# Altium schematic symbol library USRP2_Clone.SchLib: 70 symbols (part 1 of 2)
Pins are listed as number, name and electrical type; pins without a type are passive.

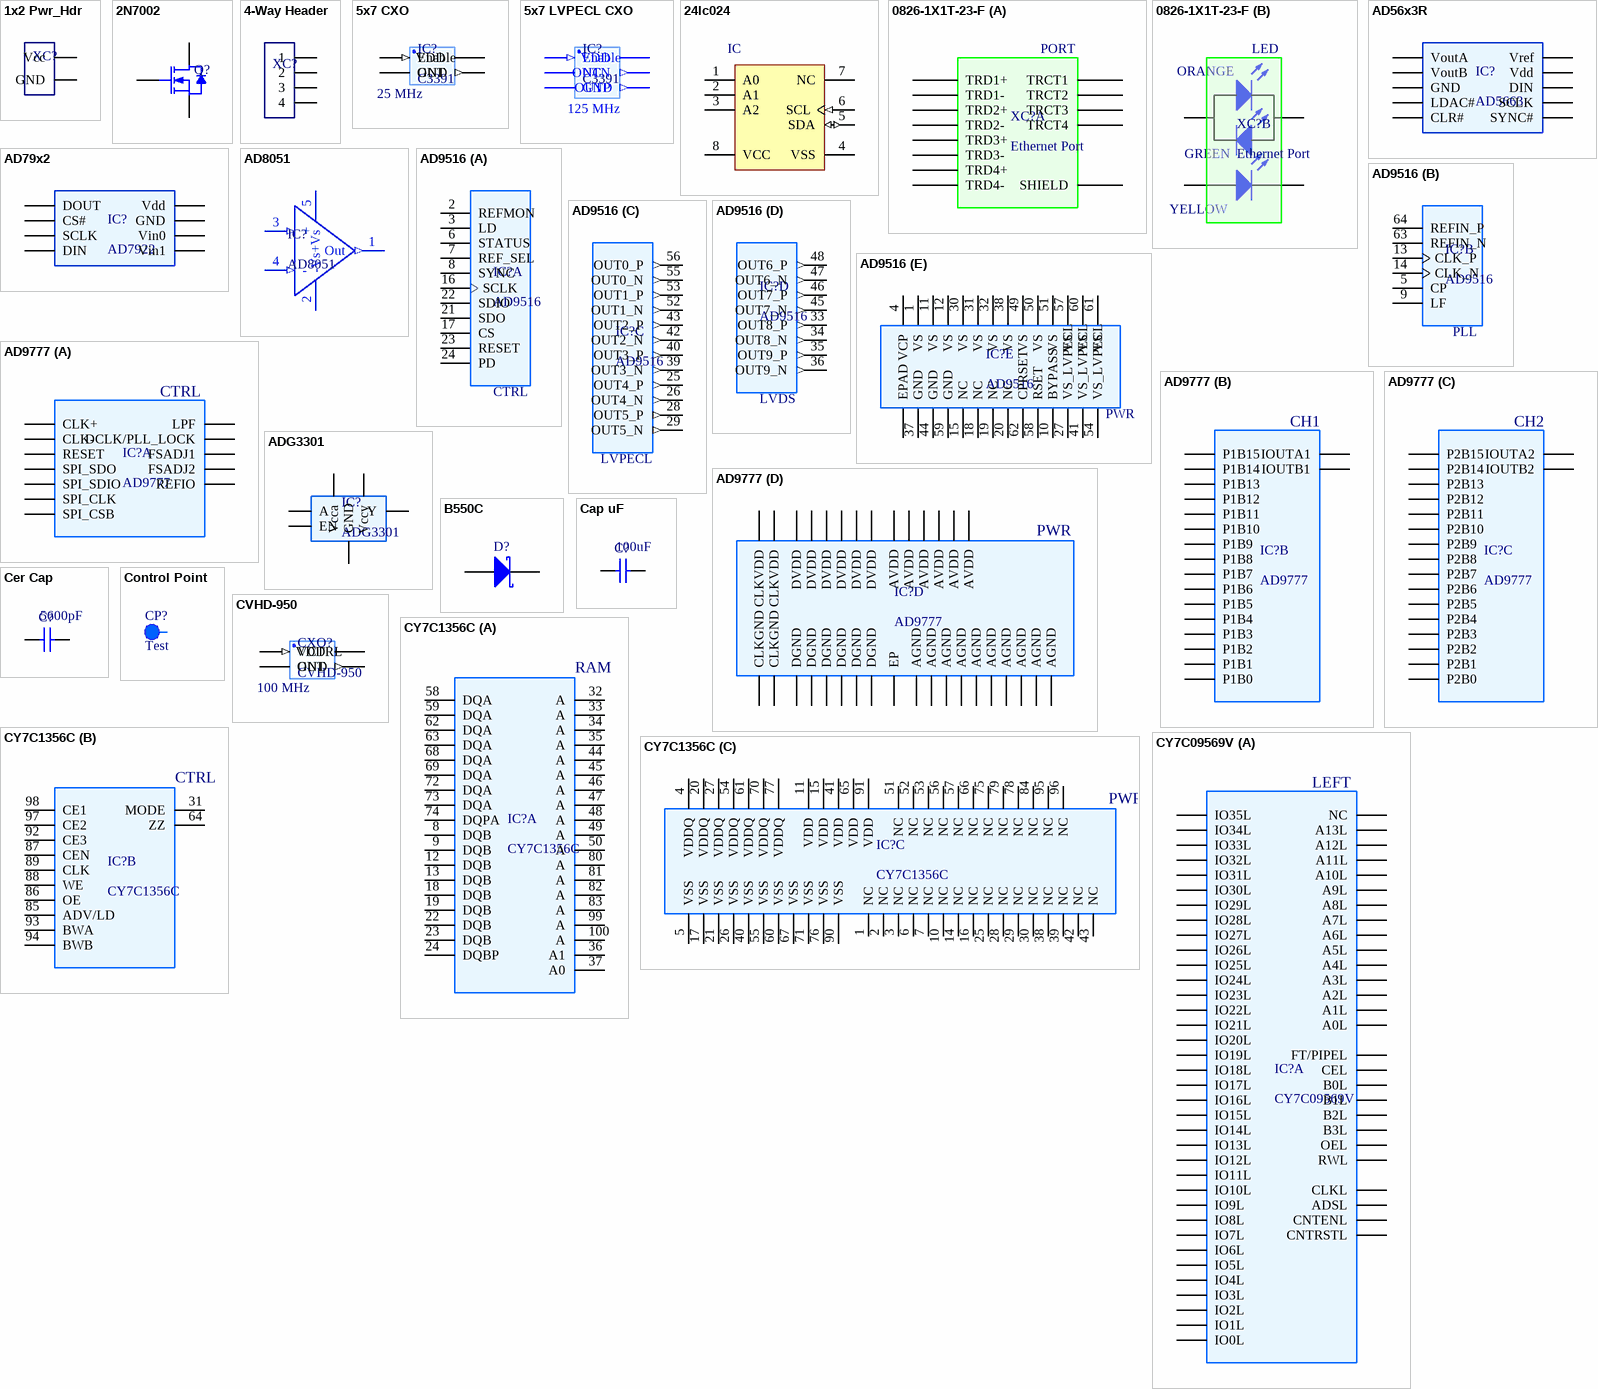
[diagram p0: symbols 1x2 Pwr_Hdr to CY7C09569V]

## 1x2 Pwr_Hdr
designator XC?
Power Connector Mini-Fit; Name: Mini-Fit Power Connector; Current: 5A; Voltage: 12V; Type: 1x2; Package: Through Hole
footprint 1x2 PWR_HDR
footprint 2x2 PWR_HDR
pins: 1 GND, 2 Vcc

## 2N7002
designator Q?  (value not drawn)
N-Channel MOSFET 2N7002; Current: 300mA; Voltage: 60V; Channel Resistance: 5Ohm; Power Dissipation: 0.83W; Name: 2N7002; Type: N-Channel MOSFET; Package: SOT-23
footprint SOT-23
pins: 1 G, 2 S, 3 D

## 4-Way Header
designator XC?  (value not drawn)
4-Way Angle PCB Header; Pitch: 2.54mm; Name: Header; Type: Right Angle; Package: Through Hole
footprint Right Angle Male Header (4-Way 2.54mm Right Angle Male Header)
pins: 1, 2, 3, 4

## 5x7 CXO
designator IC?, comment C3391  Frequency: 25 MHz
Crystal Oscillator; Manufacturer: Crystek; Name: C3391-25.000; Voltage: 3.3V ±0.3V; Output Current: ±24mA Max; Input Current: 15mA Typical; Stability: ± 25ppm; Package: 5×7 mm SMD; Temperature Range: 0°C to +70°C; Type: 3.3V, HCMOS
footprint CTS_CB3
pins: 1 Enable (in), 2 GND, 3 OUT (out), 4 VDD

## 5x7 LVPECL CXO
designator IC?, comment C3391  Frequency: 125 MHz
Crystal Oscillator; Manufacturer: Crystek; Name: CCPD - 033 - 25 - 125.000; Voltage: 3.3V ±0.3V; Output: Differential LVPECL; Input Current: 15mA Typical; Stability: ± 25ppm; Package: 5×7 mm SMD; Temperature Range: 0°C to +70°C; Type: 3.3V, LVPECL
footprint 5x7 CXO LVPECL (6-pin 5x7 CXO LVPECL)
pins: 1 Enable (in), 2 NC, 3 GND (power), 4 OUTP (out), 5 OUTN (out), 6 VDD (power)

## 24lc024
designator IC, comment I2C EEPROM  (value not drawn)
Manufacturer: Microchip; Name: 24lc024; Voltage: 2.5-5.5V; Max Clock: 400 kHz; Capacity: 2 Kbit; Type: I2C EEPROM; Package: SOIC-8
footprint SOIC_SN8
pins: 1 A0, 2 A1, 3 A2, 4 VSS (power), 5 SDA (io), 6 SCL (in), 7 NC, 8 VCC (power)

## 0826-1X1T-23-F
designator XC?, comment Ethernet Port
Gigabit Single Port; Name: 0826-1X1T-23-F; Type: Gigabit Ethernet Single Port with LEDs
footprint 0826-1X1T-23-F (Gigabit Ethernet Single Port MagJack® with LEDs)
part A pins: 0 SHIELD, 1 TRCT3, 2 TRD3-, 3 TRD3+, 4 TRD2+, 5 TRD2-, 6 TRCT2, 7 TRCT4, 8 TRD4+, 9 TRD4-, 10 TRD1-, 11 TRD1+, 12 TRCT1
part B pins: 13 LED1, 14, 15, 16 LED2
part A text: PORT
part B text: LED; ORANGE; GREEN; YELLOW

## AD56x3R
designator IC?, comment AD5663
Dual 12-/14-/16-Bit nanoDAC; Manufacturer: Analog Device; Name: AD5663RBRMZ-5; settling time: 4.5 μs maximum; Voltage: 2.7 V to 5.5 V; High speed serial interface: SPI®/QSPI™/MICROWIRE™/DSP compatible; Type: Dual 12-/14-/16-Bit nanoDAC with 5 ppm/°C On-Chip Reference; Package: MSOP-10
footprint MSOP-10 (MSOP, 10-Leads)
pins: 1 VoutA, 2 VoutB, 3 GND, 4 LDAC#, 5 CLR#, 6 SYNC#, 7 SCLK, 8 DIN, 9 Vdd, 10 Vref

## AD79x2
designator IC?, comment AD7922
1 MSPS, 10-/12-Bit ADC; Manufacturer: Analog Device; Name: AD7922ARM; Fast throughput rate: 1MHz; Voltage: 2.35 V to 5.25 V; High speed serial interface: SPI®/QSPI™/MICROWIRE™/DSP compatible; Type: 2-Channel, 2.35 V to 5.25 V,1 MSPS, 10-/12-Bit ADC; Package: MSOP-8
footprint MSOP-8 (MSOP, 8-Leads)
pins: 1 DOUT, 2 CS#, 3 SCLK, 4 DIN, 5 Vin1, 6 Vin0, 7 GND, 8 Vdd

## AD8051
designator IC?
OpAmp; Name: AD8051ARTZ-REEL7; Voltage: 3 to 12 V; Type: High speed Rail-to-Rail amplifiers; Temperature Range: –40 to +85 °C
footprint SOT-23-5
pins: 1 Out (out), 2 -Vs (power), 3 + (in), 4 - (in), 5 +Vs (power)

## AD9516
designator IC?
14-Output Clock Generator; Name: AD9516-4; Voltage: 2.5 V to 3.3 V; Input Frequency: 0 to 2.4 GHz; Output Frequency, Maximum: 2950 MHz; Input Sensitivity: 150 mV p-p; Type: 14-Output Clock Generator; Package: LFSCSP-64; Temperature Range: −40°C to +85°C
footprint LFCSP-64
part A pins: 2 REFMON, 3 LD, 6 STATUS, 7 REF_SEL, 8 SYNC, 16 SCLK, 17 CS, 21 SDO, 22 SDIO, 23 RESET, 24 PD
part B pins: 5 CP, 9 LF, 13 CLK_P, 14 CLK_N, 63 REFIN_N, 64 REFIN_P
part C pins: 25 OUT4_P (out), 26 OUT4_N (out), 28 OUT5_P (out), 29 OUT5_N (out), 39 OUT3_N (out), 40 OUT3_P (out), 42 OUT2_N (out), 43 OUT2_P (out), 52 OUT1_N (out), 53 OUT1_P (out), 55 OUT0_N (out), 56 OUT0_P (out)
part D pins: 33 OUT8_P (out), 34 OUT8_N (out), 35 OUT9_P (out), 36 OUT9_N (out), 45 OUT7_N (out), 46 OUT7_P (out), 47 OUT6_N (out), 48 OUT6_P (out)
part E pins: 0 EPAD (power), 1 VS (power), 4 VCP (power), 10 BYPASS, 11 VS (power), 12 VS (power), 15 NC, 18 NC, 19 NC, 20 NC, 27 VS_LVPECL (power), 30 VS (power), 31 VS (power), 32 VS (power), 37 GND (power), 38 VS (power), 41 VS_LVPECL (power), 44 GND (power), 49 VS (power), 50 VS (power), 51 VS (power), 54 VS_LVPECL (power), 57 VS (power), 58 RSET, 59 GND (power), 60 VS (power), 61 VS (power), 62 CPRSET
part A text: CTRL
part B text: PLL
part C text: LVPECL
part D text: LVDS
part E text: PWR

## AD9777
designator IC?
16-Bit, 160 MSPS  D/A Converter; Name: AD9777BSV; Power Dissipation: typical 1.2 W @ 3.3 V; Voltage: Single 3.3 V; Resolution: 16 bit; Sampling Frequency: 160 MHz; Type: 16-Bit, 160 MSPS 2x/4x/8x Interpolating Dual TxDAC+® D/A Converter; Temperature Range: −40°C to +85°C; Package: 80-pin TQFP
footprint TQFP-80-EP (TQFP, 80-Leads)
part A pins: 2 LPF, 5 CLK+, 6 CLK-, 8 DCLK/PLL_LOCK, 53 SPI_SDO, 54 SPI_SDIO, 55 SPI_CLK, 56 SPI_CSB, 57 RESET, 58 REFIO, 59 FSADJ2, 60 FSADJ1
part B pins: 11 P1B15, 12 P1B14, 13 P1B13, 14 P1B12, 15 P1B11, 16 P1B10, 19 P1B9, 20 P1B8, 21 P1B7, 22 P1B6, 23 P1B5, 24 P1B4, 27 P1B3, 28 P1B2, 29 P1B1, 30 P1B0, 72 IOUTB1, 73 IOUTA1
part C pins: 31 P2B15, 32 P2B14, 33 P2B13, 34 P2B12, 37 P2B11, 38 P2B10, 39 P2B9, 40 P2B8, 41 P2B7, 42 P2B6, 45 P2B5, 46 P2B4, 47 P2B3, 48 P2B2, 49 P2B1, 50 P2B0, 68 IOUTB2, 69 IOUTA2
part D pins: 0 EP, 1 CLKVDD, 3 CLKVDD, 4 CLKGND, 7 CLKGND, 9 DGND, 10 DVDD, 17 DGND, 18 DVDD, 25 DGND, 26 DVDD, 35 DGND, 36 DVDD, 43 DVDD, 44 DGND, 51 DVDD, 52 DGND, 61 AVDD, 62 AGND, 63 AVDD, 64 AGND, 65 AVDD, 66 AGND, 67 AGND, 70 AGND, 71 AGND, 74 AGND, 75 AGND, 76 AVDD, 77 AGND, 78 AVDD, 79 AGND, 80 AVDD
part A text: CTRL
part B text: CH1
part C text: CH2
part D text: PWR

## ADG3301
designator IC?
Bidirectional Logic Level Translator; Voltage: 1.15 V to 5.5 V; Name: ADG3301; Package: SOT-23-6
footprint SOT-23-6 (SOT23, 6-Leads)
pins: 1 Vcca, 2 A, 3 GND, 4 EN, 5 Y, 6 Vccy

## B550C
designator D?  (value not drawn)
Schottky Diode; Package: SMC; Name: B550C
footprint Diode_SMC
pins: 1 K, 2 A

## Cap uF
designator C?, comment value 100uF  (hidden comment: Cap)
Cer Cap Large; Manufacturer: Murata; Material: x5r; Tolerance: 20%; Voltage: 6.3V; Type: Ceramic; Package: C1210; PackageDescription: SMD Chip Capacitor
footprint C1210 (Chip Capacitor, Body 3.2x2.5mm, IPC High Density)
footprint C2220 (Chip Capacitor)
pins: 1, 2

## Cer Cap
designator C?, comment value 5600pF  (hidden comment: Cap)
Cer Cap Small; Manufacturer: Murata; Material: x7r; Voltage: 50V; Tolerance: 10%; Type: Ceramic; PackageReference: SMD Chip Capacitor; Package: 0402
footprint C0805 (Chip Capacitor, Body 2.0x1.3mm, IPC High Density)
footprint С0402 (Chip Capacitor, Body 1.0x0.5mm, IPC High Density)
footprint C0603 (Chip Capacitor, Body 1.6x0.8mm, IPC High Density)
footprint C1206
pins: 1, 2

## Control Point
designator CP?, comment Test
Control Point; Name: Control Point
footprint Control Point
pins: 1

## CVHD-950
designator CXO?  Frequency: 100 MHz
Crystal Oscillator; Name: CVHD-950-100.000; Voltage: 3.3V ±0.3V; Output: Symmetry; Output Current: ±24mA Max; Input Current: 15mA Typical; Package: CVHD-950; Temperature Range: 0°C to +70°C
footprint CVHD-950
pins: 1 VCTRL (in), 2 GND, 3 OUT (out), 4 VDD

## CY7C1356C
designator IC?
Pipelined SRAM with NoBL; Name: CY7C1356C-250AXC; Voltage: 3.3 V; Type: 9-Mbit (512 K × 18); Package: 100-pin TQFP (14 × 20 × 1.4 mm)
footprint TQFP-100 (100-pin TQFP (14x20x1.4 mm))
part A pins: 8 DQB, 9 DQB, 12 DQB, 13 DQB, 18 DQB, 19 DQB, 22 DQB, 23 DQB, 24 DQBP, 32 A, 33 A, 34 A, 35 A, 36 A1, 37 A0, 44 A, 45 A, 46 A, 47 A, 48 A, 49 A, 50 A, 58 DQA, 59 DQA, 62 DQA, 63 DQA, 68 DQA, 69 DQA, 72 DQA, 73 DQA, 74 DQPA, 80 A, 81 A, 82 A, 83 A, 99 A, 100 A
part B pins: 31 MODE, 64 ZZ, 85 ADV/LD, 86 OE, 87 CEN, 88 WE, 89 CLK, 92 CE3, 93 BWA, 94 BWB, 97 CE2, 98 CE1
part C pins: 1 NC, 2 NC, 3 NC, 4 VDDQ, 5 VSS, 6 NC, 7 NC, 10 NC, 11 VDD, 14 NC, 15 VDD, 16 NC, 17 VSS, 20 VDDQ, 21 VSS, 25 NC, 26 VSS, 27 VDDQ, 28 NC, 29 NC, 30 NC, 38 NC, 39 NC, 40 VSS, 41 VDD, 42 NC, 43 NC, 51 NC, 52 NC, 53 NC, 54 VDDQ, 55 VSS, 56 NC, 57 NC, 60 VSS, 61 VDDQ, 65 VDD, 66 NC, 67 VSS, 70 VDDQ, 71 VSS, 75 NC, 76 VSS, 77 VDDQ, 78 NC, 79 NC, 84 NC, 90 VSS, 91 VDD, 95 NC, 96 NC
part A text: RAM
part B text: CTRL
part C text: PWR

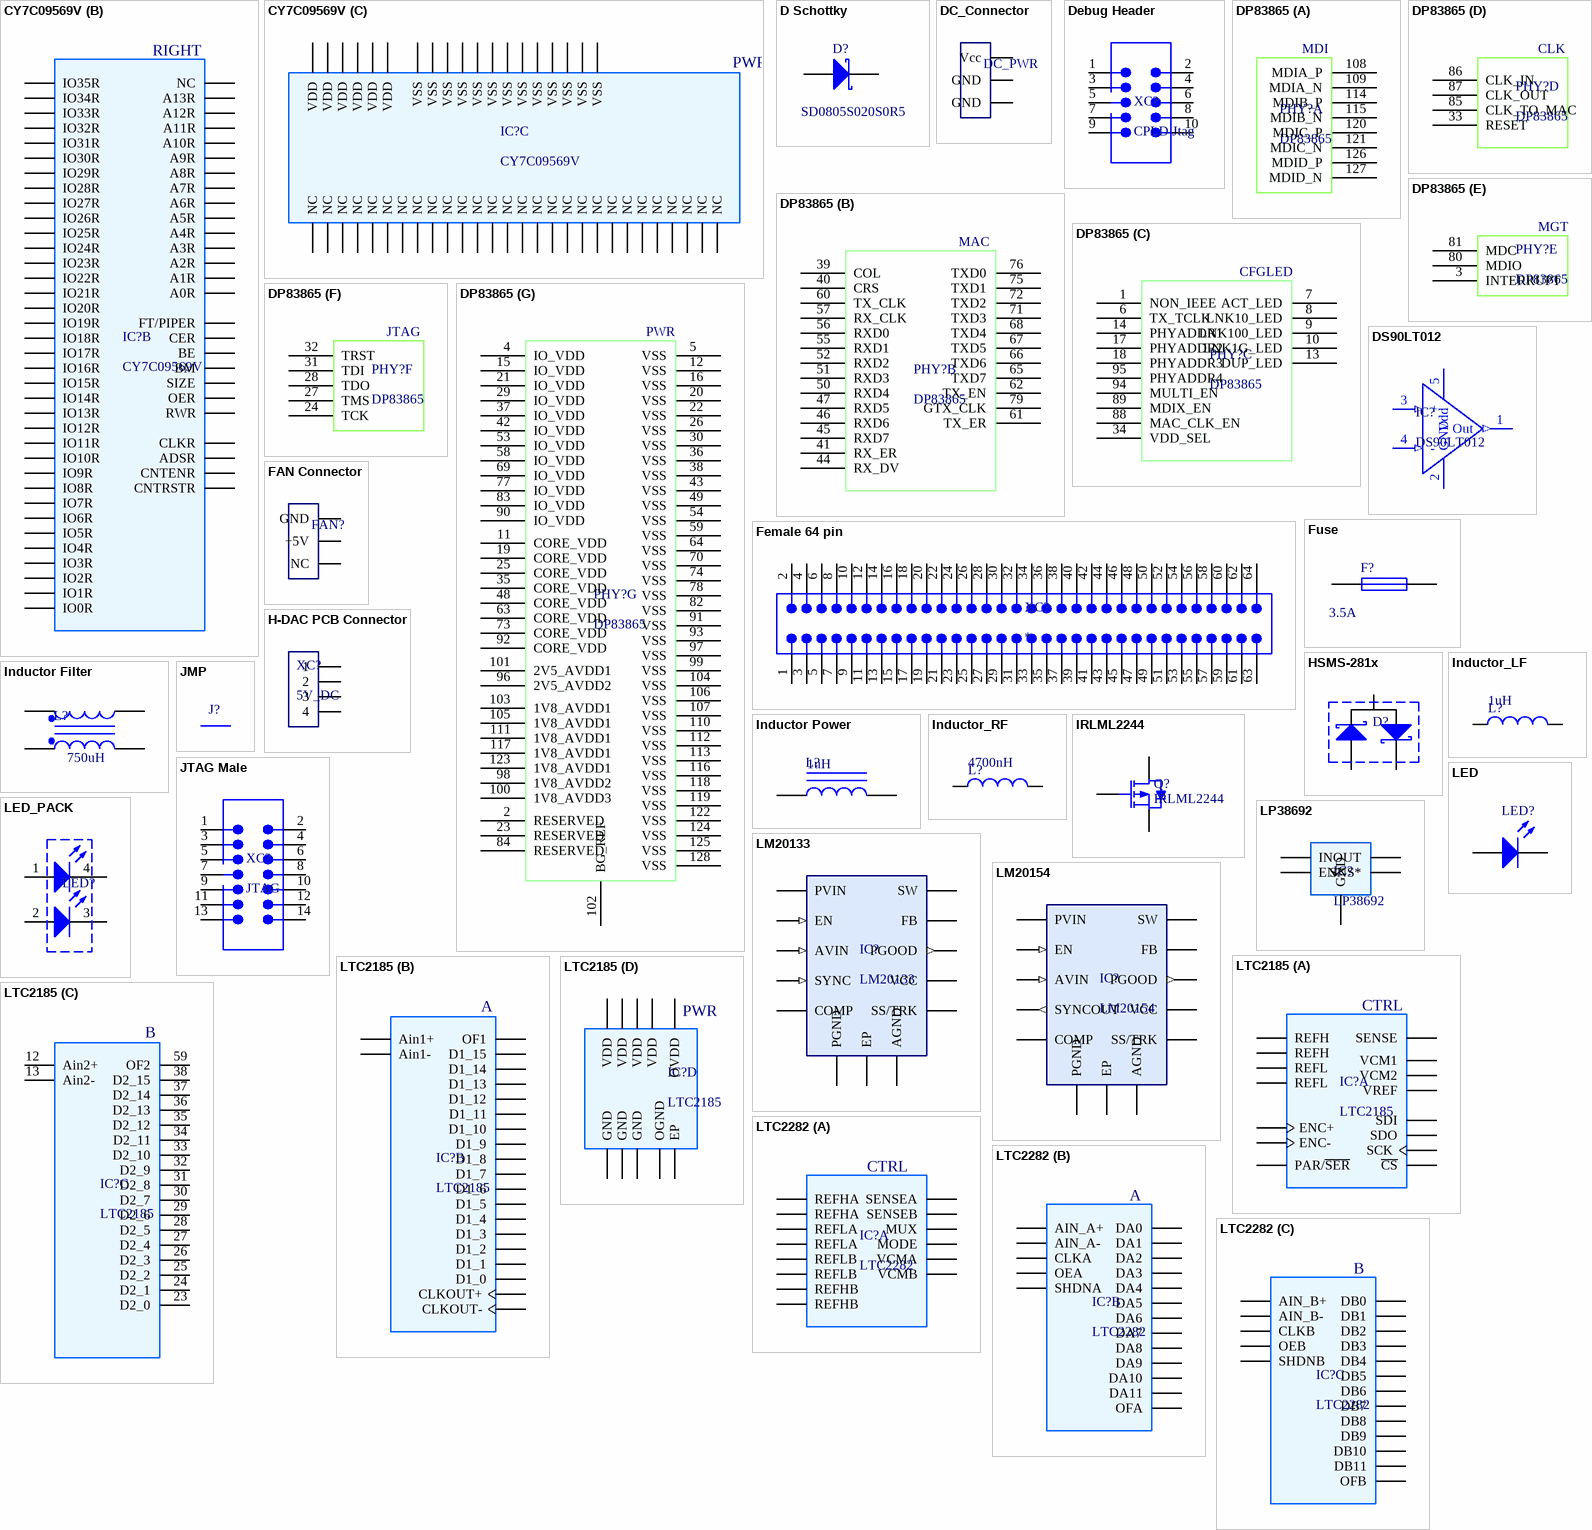
[diagram p1: symbols CY7C09569V to LTC2282]

## CY7C09569V
designator IC?
Synchronous Dual-Port Static RAM; Name: CY7C09579V-100BBC; Voltage: 3.3 V; Type: 16 K × 36 organization dual-port static RAM; Package: 172-ball BGA
footprint BGA172 (BGA, 172-Leads, Body 15,00x15,00mmx0,53mm, Pitch 1,00mm)
part A pins: A1 IO32L, A2 IO30L, A5 IO13L, A7 IO11L, B1 A0L, B2 IO33L, B3 IO29L, B4 IO17L, B5 IO14L, B6 IO12L, B7 IO9L, C2 A1L, C3 IO31L, C4 IO27L, C6 IO15L, C7 IO10L, D1 A2L, D2 A3L, D3 IO35L, D4 IO34L, D5 IO28L, D6 IO16L, E1 A4L, E2 A5L, E4 B0L, F2 A6L, F3 A7L, F4 B1L, G1 OEL, G2 B2L, G3 B3L, G4 CEL, H2 RWL, H3 A8L, H4 CLKL, J1 A9L, J2 A10L, J4 ADSL, K1 A11L, K2 A12L, K4 CNTRSTL, L1 FT/PIPEL, L2 A13L, L3 CNTENL, L4 IO26L, L5 IO25L, L6 IO19L, M2 NC, M3 IO22L, M4 IO18L, M6 IO7L, M7 IO2L, N1 IO24L, N2 IO20L, N3 IO8L, N4 IO6L, N5 IO5L, N6 IO3L, N7 IO0L, P1 IO23L, P2 IO21L, P5 IO4L, P7 IO1L
part B pins: A8 IO11R, A10 IO13R, A13 IO30R, A14 IO32R, B8 IO9R, B9 IO12R, B10 IO14R, B11 IO17R, B12 IO29R, B13 IO33R, B14 A0R, C8 IO10R, C9 IO15R, C11 IO27R, C12 IO31R, C13 A1R, D9 IO16R, D10 IO28R, D11 IO34R, D12 IO35R, D13 A3R, D14 A2R, E11 BM, E13 A5R, E14 A4R, F11 SIZE, F12 A7R, F13 A6R, G11 CER, G13 BE, G14 OER, H11 CLKR, H12 A8R, H13 RWR, J11 ADSR, J13 A10R, J14 A9R, K11 CNTRSTR, K13 A12R, K14 A11R, L9 IO19R, L10 IO25R, L11 IO26R, L12 CNTENR, L13 A13R, L14 FT/PIPER, M8 IO2R, M9 IO7R, M11 IO18R, M12 IO22R, M13 NC, N8 IO0R, N9 IO3R, N10 IO5R, N11 IO6R, N12 IO8R, N13 IO20R, N14 IO24R, P8 IO1R, P10 IO4R, P13 IO21R, P14 IO23R
part C pins: A3 NC, A4 VSS, A6 VDD, A9 VDD, A11 VSS, A12 NC, C1 NC, C5 NC, C10 NC, C14 NC, D7 VSS, D8 VSS, E3 NC, E5 NC, E6 NC, E9 NC, E10 NC, E12 NC, F1 VDD, F5 NC, F10 NC, F14 VDD, G12 VSS, H1 VSS, H14 VSS, J3 VSS, J5 NC, J10 NC, J12 VSS, K3 NC, K5 NC, K6 NC, K9 NC, K10 NC, K12 NC, L7 VSS, L8 VSS, M1 NC, M5 NC, M10 NC, M14 NC, P3 NC, P4 VSS, P6 VDD, P9 VDD, P11 VSS, P12 NC
part A text: LEFT
part B text: RIGHT
part C text: PWR

## D Schottky
designator D?  Name: SD0805S020S0R5  (hidden comment: D Schottky)
Schottky Diode SMD; Manufacturer: AVX Corporation; Voltage: 20V; Current: 0.5A; Forward Voltage: 440mV@500mA; Type: Schottky Barrier Rectifier Diode; Package: SMD
footprint SD0805 (Schottky Barrier Rectifier Diode)
pins: 1 K, 2 A

## DC_Connector
designator DC_PWR  (value not drawn)
DC Power Connector 6mm; Current: 5A; Voltage: 12V; Name: DC Power Connector; Type: 2.5mm*5.7mm; Package: through hole
footprint DC_CONNECTOR
pins: 1 Vcc, 2 GND, 3 GND

## Debug Header
designator XC?, comment CPLD Jtag
Name: JTAG Header 5x2; Type: Two Row Male Header 100mil Step
footprint Debug Header (10-pin 2.54mm pitch PCB Header)
pins: 1 GND, 2 VREF, 3 GND, 4 TMS, 5 GND, 6 TCK, 7 GND, 8 TDO, 9 GND, 10 TDI

## DP83865
designator PHY?
10/100/1000 Ethernet Physical Layer; Name: DP83865DVH; Type: 10/100/1000 Ethernet Physical Layer; Package: LQFP-128
footprint LQFP-128
part A pins: 108 MDIA_P, 109 MDIA_N, 114 MDIB_P, 115 MDIB_N, 120 MDIC_P, 121 MDIC_N, 126 MDID_P, 127 MDID_N
part B pins: 39 COL, 40 CRS, 41 RX_ER, 44 RX_DV, 45 RXD7, 46 RXD6, 47 RXD5, 50 RXD4, 51 RXD3, 52 RXD2, 55 RXD1, 56 RXD0, 57 RX_CLK, 60 TX_CLK, 61 TX_ER, 62 TX_EN, 65 TXD7, 66 TXD6, 67 TXD5, 68 TXD4, 71 TXD3, 72 TXD2, 75 TXD1, 76 TXD0, 79 GTX_CLK
part C pins: 1 NON_IEEE, 6 TX_TCLK, 7 ACT_LED, 8 LNK10_LED, 9 LNK100_LED, 10 LNK1G_LED, 13 DUP_LED, 14 PHYADDR1, 17 PHYADDR2, 18 PHYADDR3, 34 VDD_SEL, 88 MAC_CLK_EN, 89 MDIX_EN, 94 MULTI_EN, 95 PHYADDR4
part D pins: 33 RESET, 85 CLK_TO_MAC, 86 CLK_IN, 87 CLK_OUT
part E pins: 3 INTERRUPT, 80 MDIO, 81 MDC
part F pins: 24 TCK, 27 TMS, 28 TDO, 31 TDI, 32 TRST
part G pins: 2 RESERVED, 4 IO_VDD, 5 VSS, 11 CORE_VDD, 12 VSS, 15 IO_VDD, 16 VSS, 19 CORE_VDD, 20 VSS, 21 IO_VDD, 22 VSS, 23 RESERVED, 25 CORE_VDD, 26 VSS, 29 IO_VDD, 30 VSS, 35 CORE_VDD, 36 VSS, 37 IO_VDD, 38 VSS, 42 IO_VDD, 43 VSS, 48 CORE_VDD, 49 VSS, 53 IO_VDD, 54 VSS, 58 IO_VDD, 59 VSS, 63 CORE_VDD, 64 VSS, 69 IO_VDD, 70 VSS, 73 CORE_VDD, 74 VSS, 77 IO_VDD, 78 VSS, 82 VSS, 83 IO_VDD, 84 RESERVED, 90 IO_VDD, 91 VSS, 92 CORE_VDD, 93 VSS, 96 2V5_AVDD2, 97 VSS, 98 1V8_AVDD2, 99 VSS, 100 1V8_AVDD3, 101 2V5_AVDD1, 102 BG_REF, 103 1V8_AVDD1, 104 VSS, 105 1V8_AVDD1, 106 VSS, 107 VSS, 110 VSS, 111 1V8_AVDD1, 112 VSS, 113 VSS, 116 VSS, 117 1V8_AVDD1, 118 VSS, 119 VSS, 122 VSS, 123 1V8_AVDD1, 124 VSS, 125 VSS, 128 VSS
part A text: MDI
part B text: MAC
part C text: CFGLED
part D text: CLK
part E text: MGT
part F text: JTAG
part G text: PWR

## DS90LT012
designator IC?
CMOS Differential Line Receiver; Name: DS90LT012ATMF; Voltage: 2.7V to 3.6V; Switching Rate: >400 Mbps (200 MHz); Integrated Termination Resistor: 102 Ω; Type: CMOS Differential Line Receiver; Package: R-PDSO-G5; Temperature Range: −40°C  to +85°C
footprint R-PDSO-G5
pins: 1 Out (out), 2 GND (power), 3 + (in), 4 - (in), 5 Vdd (power)

## FAN Connector
designator FAN?  (value not drawn)
FAN Connector; Current: 5A; Voltage: 12V; Name: FAN Connector; Package: through hole
footprint FAN_HDR
pins: 1 GND, 2 +5V, 3 NC

## Female 64 pin
designator XC?
Mezzanine Pitch Connector; Name: 1.00mm Pitch Mezzanine 714390164; Voltage: 100V; Current: 1.0A; Type: PMC Mezzanine 1.00mm Pitch Connector; Reference: http://www.molex.com/molex/products/datasheet.jsp?part=active/0714390164_PCB_RECEPTACLES.xml#partdetail
footprint 64 pin female Mezzanine
pins: 1, 2, 3, 4, 5, 6, 7, 8, 9, 10, 11, 12, 13, 14, 15, 16, 17, 18, 19, 20, 21, 22, 23, 24, 25, 26, 27, 28, 29, 30, 31, 32, 33, 34, 35, 36, 37, 38, 39, 40, 41, 42, 43, 44, 45, 46, 47, 48, 49, 50, 51, 52, 53, 54, 55, 56, 57, 58, 59, 60, 61, 62, 63, 64

## Fuse
designator F?  Current: 3.5A  (hidden comment: Fuse)
Chip SMD Fuse; Name: Fast Fuse; Type: Fast Chip SMD Fuse; Voltage: 125V; Package: SMD Omni Block
footprint Fuse
pins: 1, 2

## H-DAC PCB Connector
designator XC?, comment 5V_DC
Manufacturer: Molex; Part Number: 0311010040; Name: PCB Header; Voltage: 500V; Current: 7.0 A; Mate With: H-DAC 64™ 31068 Series; Mate With P/N: 0310681010; Type: Vertical; Package: Through Hole; Series: H-DAC 64™ 31101; P/N: 0311010040
footprint H-DAC 64
pins: 1, 2, 3, 4

## HSMS-281x
designator D?  (value not drawn)
RF Schottky Barrier Diodes; Name: HSMS-281C; Package: SOT-323
footprint SOT-323
pins: 1 A, 2 K, 3 K

## Inductor Filter
designator L?  value 750uH  (hidden comment: Inductor Filter)
Magnetic-Core Inductor; Manufacturer: Coilcraft; Tolerance: ±30%; Name: P3222AL; Current: 5A; Package: Chip Inductor; Temperature Range: -40ºC to 125ºC
footprint Coilcraft_P3222AL
pins: 1, 2, 3, 4

## Inductor Power
designator L?  value 1uH  (hidden comment: Inductor Power)
Magnetic-Core Inductor; Manufacturer: Coilcraft; Tolerance: ±30%; Name: MSS1038; Current: 5A; Package: Chip Inductor; Temperature Range: -40ºC to 125ºC
footprint Coilcraft MSS1048
footprint Coilcraft MSS1038
footprint Murata 4600/4500 Series Inductor
footprint MS612PNB
footprint XAL6060-223
pins: 1, 2

## Inductor_LF
designator L?  value 1uH  (hidden comment: Inductor_LF)
Inductor_Power_Lines; Manufacturer: Murata; Name: LQH32PN1R0NNC; Tolerance: 5%; Current: 2500mA; Frequency: 100MHz; Package: 1210; PackageDescription: Chip Inductor; Temperature Range: -25…85; Series: LQH
footprint L1206_Murata
footprint L1210_Murata (Chip Capacitor, Body 3.2x2.5mm, IPC High Density)
footprint L1210_Murata LQH (Power Lines Inductor)
footprint L0805_Murata_LQG (Chip Capacitor, Body 2.0x1.3mm, IPC High Density)
pins: 1, 2

## Inductor_RF
designator L?  value 4700nH  (hidden comment: Inductor_RF)
Manufacturer: Murata; Name: LQG21F; Tolerance: 5%; Current: 250mA; Frequency: 350MHz; Package: 0805; PackageDescription: Chip Inductor; Temperature Range: -25…85; Series: LQG
footprint L0402 (Chip Capacitor, Body 1.0x0.5mm, IPC High Density)
footprint L0603 (Chip Capacitor, Body 1.6x0.8mm, IPC High Density)
footprint L0805 (Chip Capacitor, Body 2.0x1.3mm, IPC High Density)
footprint L1812
footprint L0805_Murata_LQG (Chip Capacitor, Body 2.0x1.3mm, IPC High Density)
pins: 1, 2

## IRLML2244
designator Q?
P-Channel MOSFET; Current: 4.3A; Channel Resistance: 54 mΩ; Power Dissipation: 1.3W; Voltage: -20V; Name: IRLML2244; Package: SOT-23; Type: P-Channel Mosfet
footprint SOT-23
pins: 1 G, 2 S, 3 D

## JMP
designator J?  (value not drawn)  (net tie, no BOM)
PGND & AGND Connect; Rule: UNIONINDEX{}0[]RULEKIND{}Width[]NETSCOPE{}AnyNet[]LAYERKIND{}SameLayer[]NAME{}Schematic Width Constraint[]MAXLIMIT{}59.0551mil[]MINLIMIT{}10mil[]PREFEREDWIDTH{}10mil[]MIDLAYER1_MAXWIDTH{}19.685mil[]MIDLAYER2_MAXWIDTH{}19.685mil[]MIDLAYER3_MAXWIDTH{}19.685mil[]MIDLAYER4_MAXWIDTH{}19.685mil[]MIDLAYER5_MAXWIDTH{}19.685mil[]MIDLAYER6_MAXWIDTH{}19.685mil[]MIDLAYER7_MAXWIDTH{}19.685mil[]MIDLAYER8_MAXWIDTH{}19.685mil[]MIDLAYER9_MAXWIDTH{}19.685mil[]MIDLAYER10_MAXWIDTH{}19.685mil[]MIDLAYER11_MAXWIDTH{}19.685mil[]MIDLAYER12_MAXWIDTH{}19.685mil[]MIDLAYER13_MAXWIDTH{}19.685mil[]MIDLAYER14_MAXWIDTH{}19.685mil[]MIDLAYER15_MAXWIDTH{}19.685mil[]MIDLAYER16_MAXWIDTH{}19.685mil[]MIDLAYER17_MAXWIDTH{}19.685mil[]MIDLAYER18_MAXWIDTH{}19.685mil[]MIDLAYER19_MAXWIDTH{}19.685mil[]MIDLAYER20_MAXWIDTH{}19.685mil[]MIDLAYER21_MAXWIDTH{}19.685mil[]MIDLAYER22_MAXWIDTH{}19.685mil[]MIDLAYER23_MAXWIDTH{}19.685mil[]MIDLAYER24_MAXWIDTH{}19.685mil[]MIDLAYER25_MAXWIDTH{}19.685mil[]MIDLAYER26_MAXWIDTH{}19.685mil[]MIDLAYER27_MAXWIDTH{}19.685mil[]MIDLAYER28_MAXWIDTH{}19.685mil[]MIDLAYER29_MAXWIDTH{}19.685mil[]MIDLAYER30_MAXWIDTH{}19.685mil[]MINIMP{}50.000000[]MAXIMP{}50.000000[]FAVIMP{}50.000000[]UNIT{}Metric[]PcbType{}ProtelPcb
footprint JUMPER
pins: 1, 2

## JTAG Male
designator XC?, comment JTAG
Male Header JTAG; Manufacturer: CNC Tech; Name: BOX HEADER, 0.050 14 POS; P/N: 3220-14-0100-00; Type: Two Row Male Header .050'' Step
footprint JTAG Mail
footprint JTAG Mail 1.27mm
pins: 1 GND, 2 VREF, 3 GND, 4 TMS, 5 GND, 6 TCK, 7 GND, 8 TDO, 9 GND, 10 TDI, 11 GND, 12 NC, 13 GND, 14 SRST

## LED
designator LED?  (value not drawn)
Typical RED, GREEN, YELLOW, AMBER GaAs LED; Manufacturer: Kingbright; Color: Blue; P/N: APHHS1005QBC/D; Package: 0402; Name: LED
footprint LED_0805_Green
footprint LED_0402_Blue
pins: 1 K, 2 A

## LED_PACK
designator LED?, comment Green  (value not drawn)
LED Pack For Front Panel; Manufacturer: Kingbright; P/N: WP934EB/2GD; Type: 2-level PCB-mount LED-indicator; Current: 25mA; Color: Green; Package: Throu-Hole
footprint LED_PACK
pins: 1 A, 2 A, 3 K, 4 K

## LM20133
designator IC?
Synchronous Buck Regulator; Input Voltage: 2.95V to 5.5V; Frequency: 500 kHz to 1.5 MHz; Current: 3A; Temperature Range: −40°C to + 125°C; Type: Synchronous Buck Regulator; Name: LM20133; Package: HTSSOP
footprint LM201xx
pins: 1 SS/TRK, 2 FB, 3 PGOOD (out), 4 COMP, 6 PVIN, 8 SW, 10 PGND, 12 EN (in), 13 VCC, 14 AVIN (in), 15 AGND, 16 SYNC (in), 17 EP

## LM20154
designator IC?
Synchrous Buck Regulator; Current: 4A; Frequency: 1MHz; Input Voltage: 2.95V to 5.5V; Type: Synchrous Buck Regulator; Temperature Range: −40°C to + 125°C; Name: LM20154; Package: HTSSOP
footprint LM201xx
pins: 1 SS/TRK, 2 FB, 3 PGOOD (out), 4 COMP, 6 PVIN, 8 SW, 10 PGND, 12 EN (in), 13 VCC, 14 AVIN (in), 15 AGND, 16 SYNCOUT (out), 17 EP

## LP38692
designator IC?
Linear Regulator; Name: LP28692MP-3.3; Input Voltage: 2.7 V to 10 V; Output Accuracy: 2.5%; Dropout Voltage: 450 mV at 1 A; Package: SOT-223-5; Type: Linear Regulator; Temperature Range: –40°C to 125°C
footprint SOT-223-5
pins: 1 EN, 3 OUT, 4 IN, 5 GND, 6 SNS*

## LTC2185
designator IC?
Dual 16-Bit, 125Msps  Low Power 3V ADC; Name: LTC2185CUP#PBF-ND; Power Dissipation: 370mW; Voltage: Single 1.8V Supply; Resolution: 16 Bits; Sampling Frequency: 125 MHz; Type: Dual 16-Bit, 105Msps  Low Power 3V ADC; Temperature Range: 0°C to 70°C; Package: 64-Pin (9mm × 9mm) QFN
footprint QFN-64
part A pins: 2 VCM1, 7 REFH, 8 REFL, 9 REFH, 10 REFL, 11 PAR/~{SER}, 15 VCM2, 18 ENC+, 19 ENC-, 20 ~{CS}, 21 SCK, 22 SDI, 61 SDO, 62 VREF, 63 SENSE
part B pins: 4 Ain1+, 5 Ain1-, 39 CLKOUT-, 40 CLKOUT+, 43 D1_0, 44 D1_1, 45 D1_2, 46 D1_3, 47 D1_4, 48 D1_5, 49 D1_6, 50 D1_7, 51 D1_8, 52 D1_9, 53 D1_10, 54 D1_11, 55 D1_12, 56 D1_13, 57 D1_14, 58 D1_15, 60 OF1
part C pins: 12 Ain2+, 13 Ain2-, 23 D2_0, 24 D2_1, 25 D2_2, 26 D2_3, 27 D2_4, 28 D2_5, 29 D2_6, 30 D2_7, 31 D2_8, 32 D2_9, 33 D2_10, 34 D2_11, 35 D2_12, 36 D2_13, 37 D2_14, 38 D2_15, 59 OF2
part D pins: 0 EP (power), 1 VDD (power), 3 GND (power), 6 GND (power), 14 GND (power), 16 VDD (power), 17 VDD (power), 41 OGND (power), 42 OVDD (power), 64 VDD (power)
part A text: CTRL
part B text: A
part C text: B
part D text: PWR

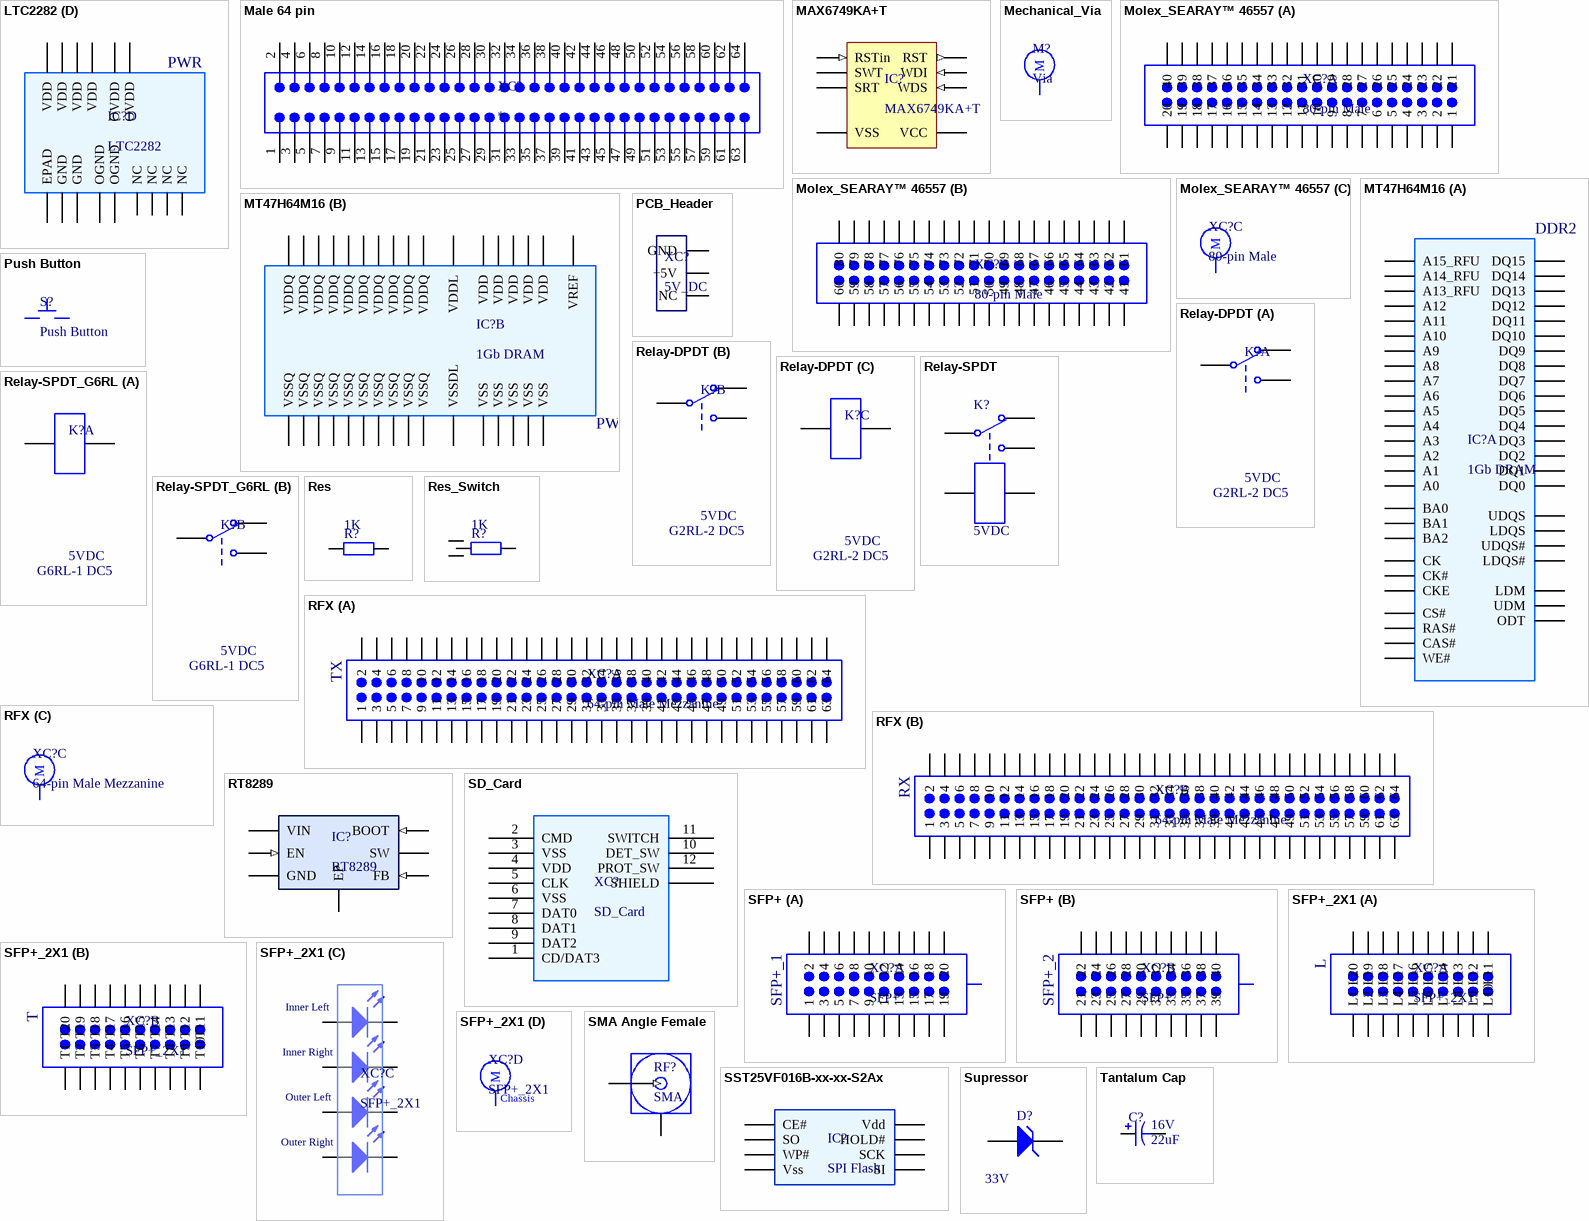
[diagram p2: symbols LTC2282 to Tantalum Cap]

## LTC2282
designator IC?
Dual 12-Bit, 105Msps  Low Power 3V ADC; Name: LTC2282CUP#BPF; Power Dissipation: 1500mW; Voltage: Single 3V Supply (2.85V to 3.4V); Resolution: 12 Bits; Sampling Frequency: 105 MHz; Type: Dual 12-Bit, 105Msps  Low Power 3V ADC; Temperature Range: 0°C to 70°C; Package: 64-Pin (9mm × 9mm) QFN
footprint QFN-64
part A pins: 3 REFHA, 4 REFHA, 5 REFLA, 6 REFLA, 11 REFLB, 12 REFLB, 13 REFHB, 14 REFHB, 19 SENSEB, 20 VCMB, 21 MUX, 60 MODE, 61 VCMA, 62 SENSEA
part B pins: 1 AIN_A+, 2 AIN_A-, 8 CLKA, 43 DA0, 44 DA1, 45 DA2, 46 DA3, 47 DA4, 48 DA5, 51 DA6, 52 DA7, 53 DA8, 54 DA9, 55 DA10, 56 DA11, 57 OFA, 58 OEA, 59 SHDNA
part C pins: 9 CLKB, 15 AIN_B-, 16 AIN_B+, 22 SHDNB, 23 OEB, 26 DB0, 27 DB1, 28 DB2, 29 DB3, 30 DB4, 33 DB5, 34 DB6, 35 DB7, 36 DB8, 37 DB9, 38 DB10, 39 DB11, 40 OFB
part D pins: 0 EPAD, 7 VDD, 10 VDD, 17 GND, 18 VDD, 24 NC, 25 NC, 31 OGND, 32 OVDD, 41 NC, 42 NC, 49 OVDD, 50 OGND, 63 VDD, 64 GND
part A text: CTRL
part B text: A
part C text: B
part D text: PWR

## Male 64 pin
designator XC?
64 Position Mezzanine connectors for board stacking, 1 mm Centerline high density packaging; Name: 1.00mm Pitch Mezzanine 714362164; Voltage: 100V; Current: 1.0A; Type: PMC Mezzanine 1.00mm Pitch Connector; Reference: http://www.molex.com/molex/products/datasheet.jsp?part=active/0714360164_PCB_HEADERS.xml&channel=Products&L#partdetail
footprint 64 pin male mezanine
footprint 64-pin Mezzanine Mail with Holes
footprint DB_RX
pins: 1, 2, 3, 4, 5, 6, 7, 8, 9, 10, 11, 12, 13, 14, 15, 16, 17, 18, 19, 20, 21, 22, 23, 24, 25, 26, 27, 28, 29, 30, 31, 32, 33, 34, 35, 36, 37, 38, 39, 40, 41, 42, 43, 44, 45, 46, 47, 48, 49, 50, 51, 52, 53, 54, 55, 56, 57, 58, 59, 60, 61, 62, 63, 64

## MAX6749KA+T
designator IC?
uC Reset Circuits; Manufacturer: Maxim; Voltage: 1.0-5.5V; RESET IN Threshold: 1.235V; Name: MAX6749KA+T; Package: 8 SOT23
footprint SOT-23-8 (TSOP, 8-Leads)
pins: 1 RSTin (in), 2 SWT, 3 SRT, 4 VSS (power), 5 WDS (in), 6 WDI (in), 7 RST (out), 8 VCC (power)

## Mechanical_Via
designator M?, comment Via
Mechanical Via
footprint Mechanical_Via
pins: 0 M

## Molex_SEARAY™ 46557
designator XC?, comment 80-pin Male
CONN FML 80POS 4ROWS GOLD SMD; Manufacturer: Molex; Name: High Density Array, Female; Pitch: 0.050" (1.27mm); Number of Positions: 80; P/N: 46557-2545; Mates With: SEARAY™ 46556 Series; IsBGA: TRUE; Series: SEARAY™ 46557; Number of Rows: 4; Mounting Type: Surface Mount
footprint Molex_465572545 (CONN FML 80POS 4ROWS GOLD)
part A pins: 1, 2, 3, 4, 5, 6, 7, 8, 9, 10, 11, 12, 13, 14, 15, 16, 17, 18, 19, 20, 21, 22, 23, 24, 25, 26, 27, 28, 29, 30, 31, 32, 33, 34, 35, 36, 37, 38, 39, 40
part B pins: 41, 42, 43, 44, 45, 46, 47, 48, 49, 50, 51, 52, 53, 54, 55, 56, 57, 58, 59, 60, 61, 62, 63, 64, 65, 66, 67, 68, 69, 70, 71, 72, 73, 74, 75, 76, 77, 78, 79, 80
part C pins: 0 M

## MT47H64M16
designator IC?, comment 1Gb DRAM
DDR2 1Gb DRAM; Manufacturer: Micron Technology Inc.; Name: MT47H64M16NF-25E:M; Configuration: 64 Meg x 16 (8 Meg x 16 x 8 banks); Voltage: V  DD  = 1.8V ±0.1V, V  DDQ  = 1.8V ±0.1V; Package: 84-ball FBGA (8mm x 12.5mm)
footprint BGA84 (DDR2)
part A pins: A8 UDQS#, B1 DQ14, B3 UDM, B7 UDQS, B9 DQ15, C2 DQ9, C8 DQ8, D1 DQ12, D3 DQ11, D7 DQ10, D9 DQ13, E8 LDQS#, F1 DQ6, F3 LDM, F7 LDQS, F9 DQ7, G2 DQ1, G8 DQ0, H1 DQ4, H3 DQ3, H7 DQ2, H9 DQ5, J8 CK, K2 CKE, K3 WE#, K7 RAS#, K8 CK#, K9 ODT, L1 BA2, L2 BA0, L3 BA1, L7 CAS#, L8 CS#, M2 A10, M3 A1, M7 A2, M8 A0, N2 A3, N3 A5, N7 A6, N8 A4, P2 A7, P3 A9, P7 A11, P8 A8, R2 A12, R3 A14_RFU, R7 A15_RFU, R8 A13_RFU
part B pins: A1 VDD, A3 VSS, A7 VSSQ, A9 VDDQ, B2 VSSQ, B8 VSSQ, C1 VDDQ, C3 VDDQ, C7 VDDQ, C9 VDDQ, D2 VSSQ, D8 VSSQ, E1 VDD, E3 VSS, E7 VSSQ, E9 VDDQ, F2 VSSQ, F8 VSSQ, G1 VDDQ, G3 VDDQ, G7 VDDQ, G9 VDDQ, H2 VSSQ, H8 VSSQ, J1 VDDL, J2 VREF, J3 VSS, J7 VSSDL, J9 VDD, M9 VDD, N1 VSS, P9 VSS, R1 VDD
part A text: DDR2
part B text: PWR

## PCB_Header
designator XC?, comment 5V_DC
Manufacturer: Molex; Part Number: 353620350; Name: PCB Header; Voltage: 125V; Current: 2.0 A; Type: Vertical; Package: Through Hole
footprint Molex_353620350
pins: 1 GND, 2 +5V, 3 NC

## Push Button
designator S?
Manufacturer: Omron; Name: B3FS-1000; Operating  force: 2.55 N; Plunger  color: Black; Voltage: 24V; Current: 50mA; Type: Tactile Switch (SMT); Package: 6x6 SMT; Series: B3FS-1000
footprint B3FS-1000 (Push Button 6x6 mm)
pins: 1, 2

## Relay-DPDT
designator K?, comment 5VDC  Name: G2RL-2 DC5
Power Relay; Manufacturer: Omron; Switch Current: 8A max; Type: DPDT; Voltage: 5VDC
footprint G2RL-2 (Compact Dual-pole Relay)
part A pins: 2, 3, 4
part B pins: 5, 6, 7
part C pins: 1, 8

## Relay-SPDT
designator K?, comment 5VDC
Single-Pole Dual-Throw Relay; Manufacturer: Omron; Switch Current: 5A max; Name: G5SB-14 DC5; Type: Compact Single-pole Relay; Voltage: 5VDC
footprint G5SB (Compact Single-pole Relay)
pins: 1, 2, 3, 4, 5

## Relay-SPDT_G6RL
designator K?, comment 5VDC  Name: G6RL-1 DC5
Single-Pole Dual-Throw Relay; Manufacturer: Omron; Switch Current: 8A max; Type: Compact Single-pole Relay; Voltage: 5VDC
footprint G6RL (Low-profile power relay)
part A pins: 1, 5
part B pins: 2, 3, 4

## Res
designator R?  value 1K  (hidden comment: Res)
Resistor; Name: Chip SMD Resistor; Tolerance: 5%; Power: 0.062 Wt; Package: SMD; Temperature Range: -55…155
footprint R0402
footprint R0805
footprint R0603 (Chip Capacitor, Body 1.6x0.8mm, IPC High Density)
pins: 1, 2

## Res_Switch
designator R?  value 1K  (hidden comment: Res_Switch)
Resistor; Name: Chip SMD Resistor; Tolerance: 5%; Power: 0.062 Wt; Package: SMD; Temperature Range: -55…155
footprint R0402_Switch
pins: 1, 2, 3

## RFX
designator XC?, comment 64-pin Male Mezzanine
RFX; Name: 1.00mm Pitch Mezzanine 714362164
footprint RFX
part A pins: 1, 2, 3, 4, 5, 6, 7, 8, 9, 10, 11, 12, 13, 14, 15, 16, 17, 18, 19, 20, 21, 22, 23, 24, 25, 26, 27, 28, 29, 30, 31, 32, 33, 34, 35, 36, 37, 38, 39, 40, 41, 42, 43, 44, 45, 46, 47, 48, 49, 50, 51, 52, 53, 54, 55, 56, 57, 58, 59, 60, 61, 62, 63, 64
part B pins: 65 1, 66 2, 67 3, 68 4, 69 5, 70 6, 71 7, 72 8, 73 9, 74 10, 75 11, 76 12, 77 13, 78 14, 79 15, 80 16, 81 17, 82 18, 83 19, 84 20, 85 21, 86 22, 87 23, 88 24, 89 25, 90 26, 91 27, 92 28, 93 29, 94 30, 95 31, 96 32, 97 33, 98 34, 99 35, 100 36, 101 37, 102 38, 103 39, 104 40, 105 41, 106 42, 107 43, 108 44, 109 45, 110 46, 111 47, 112 48, 113 49, 114 50, 115 51, 116 52, 117 53, 118 54, 119 55, 120 56, 121 57, 122 58, 123 59, 124 60, 125 61, 126 62, 127 63, 128 64
part C pins: 0 M
part A text: TX
part B text: RX

## RT8289
designator IC?
Step-Down Converter; Current: 5A; Voltage: 32V; Frequency: 500 kHz; Name: RT8289; Package: SOP-8
footprint RT8289
pins: 1 BOOT (in), 4 FB (in), 5 EN (in), 6 GND (power), 7 VIN (power), 8 SW (power), 9 EP

## SD_Card
designator XC?
SD Card Holder; Manufacturer: Tyco Electronics; Name: 1775059-1; Type: SD Card Connector, Reverse Type; Package: SMD PCB Mount
footprint SD_Card
pins: 0 SHIELD, 1 CD/DAT3, 2 CMD, 3 VSS, 4 VDD, 5 CLK, 6 VSS, 7 DAT0, 8 DAT1, 9 DAT2, 10 DET_SW, 11 SWITCH, 12 PROT_SW

## SFP+
designator XC?
SFP+ 1 by 2 Connector; Manufacturer: Molex; Name: SFP+ Connector 74441 Series; P/N: 744410010 20-pin SFP+ connector; P/N: 747540220 SFP+ Cage 1 by 2; Type: 40-pin (2x20 pin) SFP+ Connector
footprint SFP+ (SFP+ 10Gbit Connector 1x2)
part A pins: 0 CHASSIS, 1, 2, 3, 4, 5, 6, 7, 8, 9, 10, 11, 12, 13, 14, 15, 16, 17, 18, 19, 20
part B pins: 0 CHASSIS, 21, 22, 23, 24, 25, 26, 27, 28, 29, 30, 31, 32, 33, 34, 35, 36, 37, 38, 39, 40
part A text: SFP+_1
part B text: SFP+_2

## SFP+_2X1
designator XC?
SFP+ 1 by 2 Connector; Manufacturer: Molex; LEDS Manufacturer: Kingbright; Name: SFP+ Connector 76044 Series; P/N: 0760445001; LEDS Green x2 P/N: APHCM2012CGCK-F01; LEDS Orange x2 P/N: APHCM2012SECK-F01; Type: 40-pin (2x20 pin) SFP+ Connector; Mounting Type: Through Hole, Right Angle; Termination: Press-Fit; Features: Board Guide, EMI Shielded, Light Pipe
footprint SFP+ Light Pipe (CONN STACKED SFP+ 2X1 40POS)
part A pins: L1, L2, L3, L4, L5, L6, L7, L8, L9, L10, L11, L12, L13, L14, L15, L16, L17, L18, L19, L20
part B pins: T1, T2, T3, T4, T5, T6, T7, T8, T9, T10, T11, T12, T13, T14, T15, T16, T17, T18, T19, T20
part C pins: INL_1 K, INL_2 A, INR_1 K, INR_2 A, OUTL_1 K, OUTL_2 A, OUTR_1 K, OUTR_2 A
part D pins: 0 M
part A text: L
part B text: T
part C text: Inner Left; Inner Right; Outer Left; Outer Right
part D text: Chassis

## SMA Angle Female
designator RF?, comment SMA
SMA Male Right-Angle PCM Connector; Name: SMA Right Angle PCB Mount RF Connector; Type: SMA
footprint SMA Angle Female
footprint SMA Angle Female With Term
pins: 0 GND (power), 1 RF (in) "Signal Pin"

## SST25VF016B-xx-xx-S2Ax
designator IC?, comment SPI Flash
Name: SSTV25VF016B-50-4C-S2F; Operating Frequency: 50 MHz; Device Density: 16 Mbit; Voltage: 2.7-3.6V; Type: SPI Flash; Package: SOIC; Temperature Range: 0°C to +70°C
footprint SOIC8-W
pins: 1 CE#, 2 SO, 3 WP#, 4 Vss, 5 SI, 6 SCK, 7 HOLD#, 8 Vdd

## Supressor
designator D?  Voltage: 33V  (hidden comment: Supressor)
33V Supressor; Name: SMCJ33A-TR; Power: 1500W; Package: SMC
footprint Diode_SMC
footprint SMF
pins: 1 K, 2 A

## Tantalum Cap
designator C?  value 22uF  Voltage: 16V  (hidden comment: *)
Tantalum Polarity Cap; Manufacturer: Tecap; Name: Tantalum Capacitor; Tolerance: 20%; Type: Tantalum Polarity Cap; Temperature Range: -55…85; Package: Chip Capacitor Type C
footprint capacitor C
footprint Tantalum_C
footprint Tantalum_D
pins: 1, 2

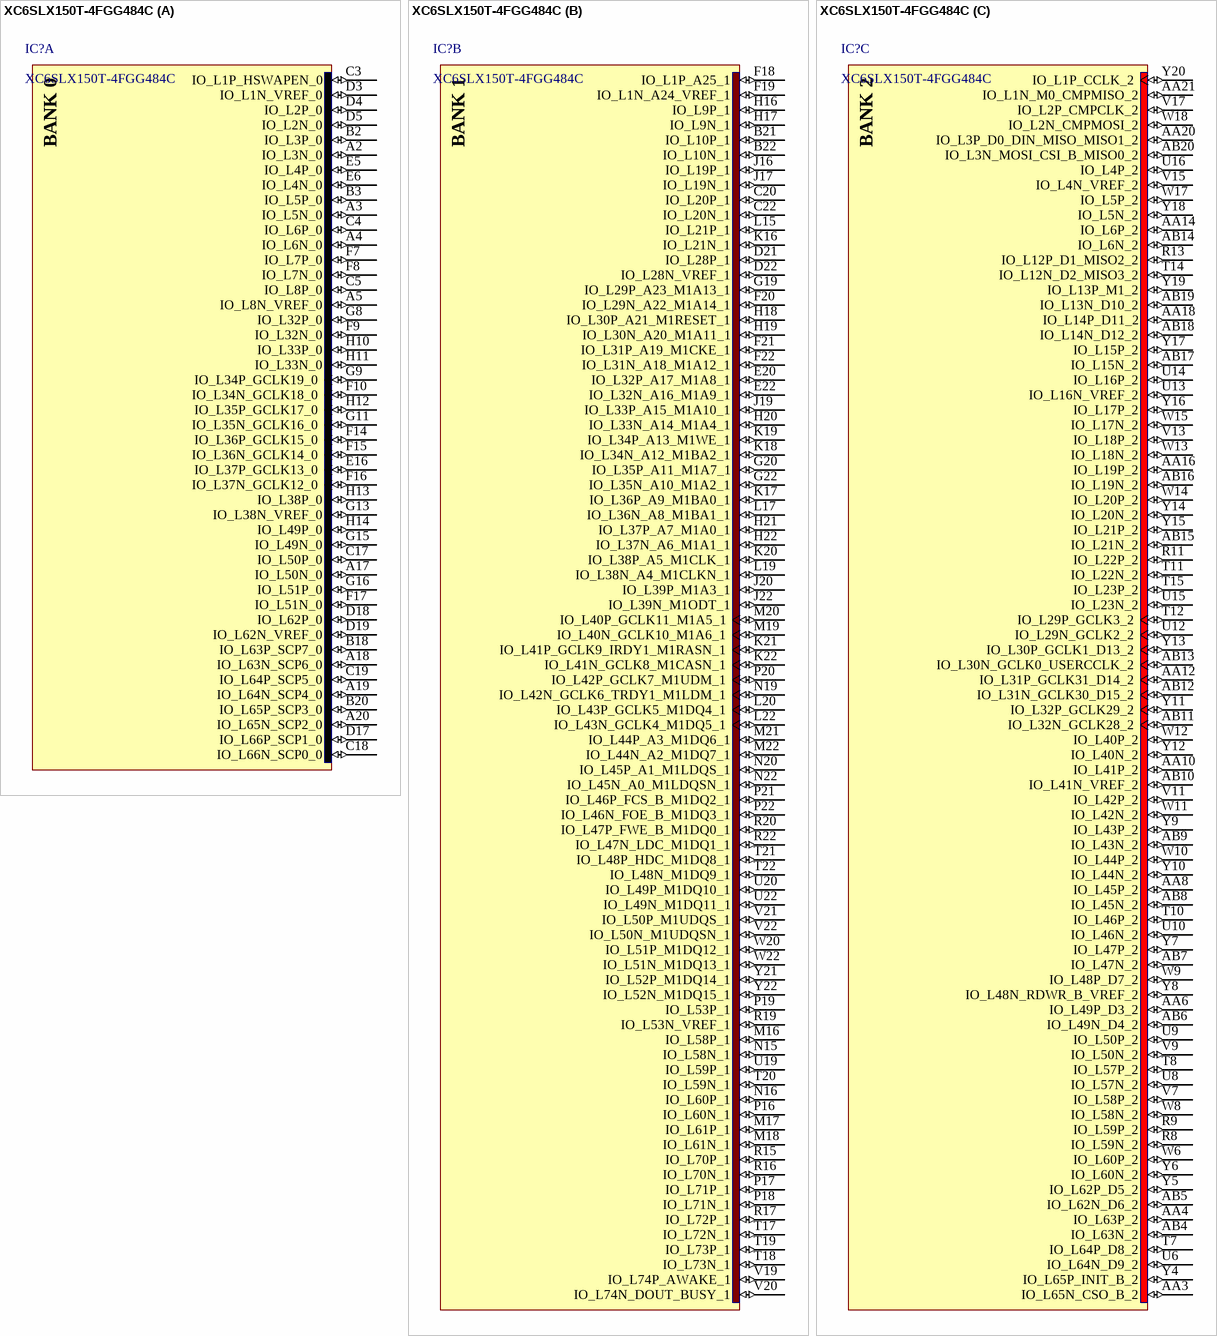
[diagram p3: symbol XC6SLX150T-4FGG484C]

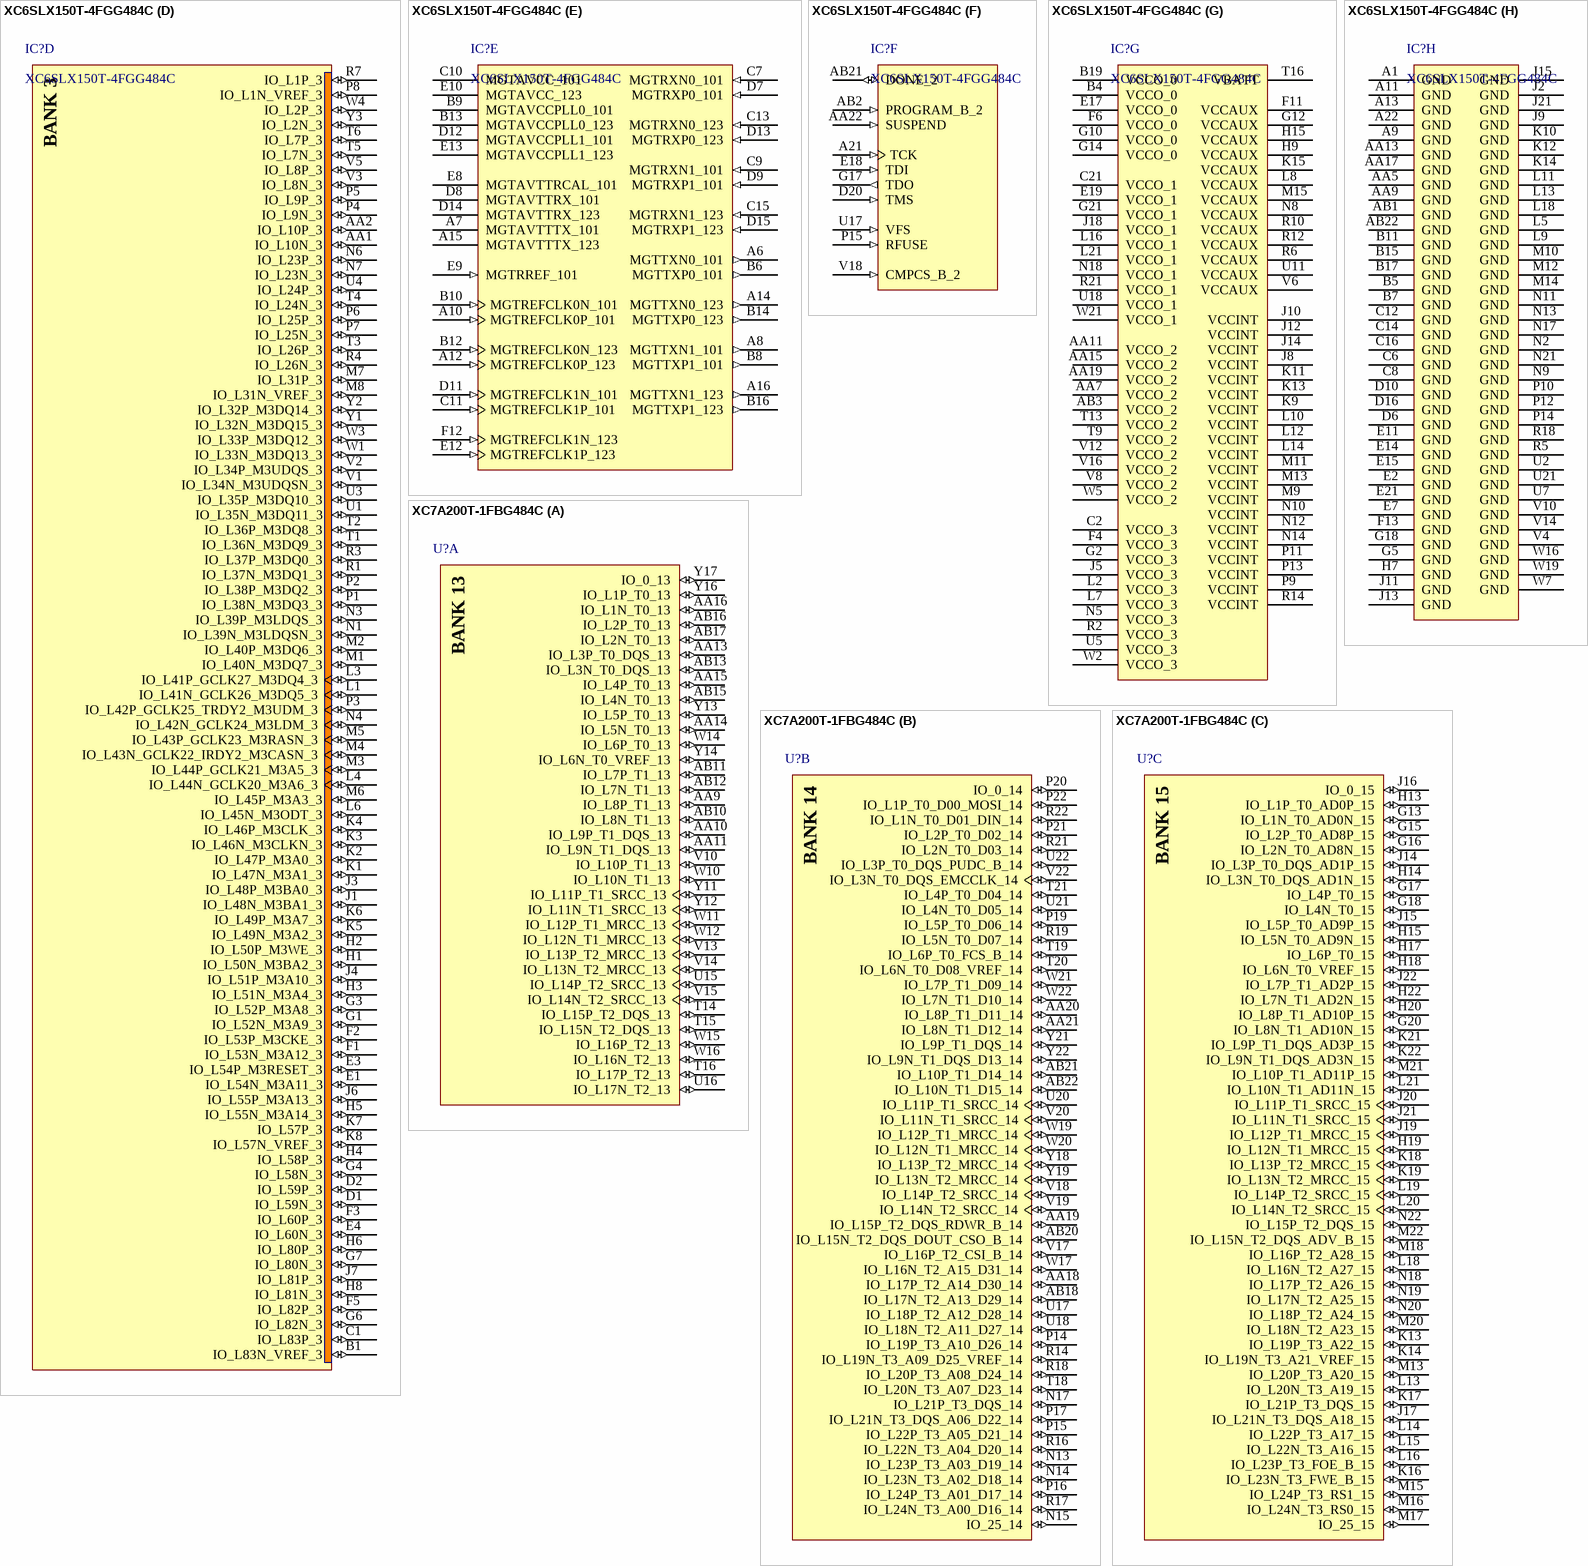
[diagram p4: symbols XC6SLX150T-4FGG484C to XC7A200T-1FBG484C]

## XC6SLX150T-4FGG484C
designator IC?
Spartan-6 LXT 1.2V FPGA, 296 User I/Os, 484-Ball Fine-Pitch BGA (1.0mm Pitch), Speed Grade 4, Commercial Grade, Pb-Free; Published: 17-Nov-2009; DatasheetVersion: ver1.6, Nov-2010; PackageVersion: ver1.1, Dec-2008; PackageReference: FGG484; Publisher: Altium Limited; PackageDescription: 484-Ball Fine Pitch Ball Grid Array 1.00 mm Pitch (FGG484) - Pb-Free; Supplier 1: Digi-Key; Supplier Part Number 1: XC6SLX150T-4FGG484C-ND; Code_JEDEC: MS-034-AAJ-1; Code_IPC: BGA100P22X22-484; ComponentLink1Description: Manufacturer Link; ComponentLink1URL: http://www.xilinx.com; ComponentLink2Description: Spartan-6 Datasheet; ComponentLink2URL: http://www.xilinx.com/support/documentation/data_sheets/ds160.pdf; ComponentLink3Description: Spartan-6 Documents; ComponentLink3URL: http://www.xilinx.com/support/documentation/spartan-6.htm; ComponentLink4Description: Xilinx.com Home; ComponentLink4URL: http://www.xilinx.com
signal-integrity model XC6SLX150T_FGG484 (Spartan-6)
footprint FGG484 (BGA, 484-Leads, Body 23x23mm, Pitch 1mm)
part A pins: A2 IO_L3N_0 (io), A3 IO_L5N_0 (io), A4 IO_L6N_0 (io), A5 IO_L8N_VREF_0 (io), A17 IO_L50N_0 (io), A18 IO_L63N_SCP6_0 (io), A19 IO_L64N_SCP4_0 (io), A20 IO_L65N_SCP2_0 (io), B2 IO_L3P_0 (io), B3 IO_L5P_0 (io), B18 IO_L63P_SCP7_0 (io), B20 IO_L65P_SCP3_0 (io), C3 IO_L1P_HSWAPEN_0 (io), C4 IO_L6P_0 (io), C5 IO_L8P_0 (io), C17 IO_L50P_0 (io), C18 IO_L66N_SCP0_0 (io), C19 IO_L64P_SCP5_0 (io), D3 IO_L1N_VREF_0 (io), D4 IO_L2P_0 (io), D5 IO_L2N_0 (io), D17 IO_L66P_SCP1_0 (io), D18 IO_L62P_0 (io), D19 IO_L62N_VREF_0 (io), E5 IO_L4P_0 (io), E6 IO_L4N_0 (io), E16 IO_L37P_GCLK13_0 (io), F7 IO_L7P_0 (io), F8 IO_L7N_0 (io), F9 IO_L32N_0 (io), F10 IO_L34N_GCLK18_0 (io), F14 IO_L36P_GCLK15_0 (io), F15 IO_L36N_GCLK14_0 (io), F16 IO_L37N_GCLK12_0 (io), F17 IO_L51N_0 (io), G8 IO_L32P_0 (io), G9 IO_L34P_GCLK19_0 (io), G11 IO_L35N_GCLK16_0 (io), G13 IO_L38N_VREF_0 (io), G15 IO_L49N_0 (io), G16 IO_L51P_0 (io), H10 IO_L33P_0 (io), H11 IO_L33N_0 (io), H12 IO_L35P_GCLK17_0 (io), H13 IO_L38P_0 (io), H14 IO_L49P_0 (io)
part B pins: B21 IO_L10P_1 (io), B22 IO_L10N_1 (io), C20 IO_L20P_1 (io), C22 IO_L20N_1 (io), D21 IO_L28P_1 (io), D22 IO_L28N_VREF_1 (io), E20 IO_L32P_A17_M1A8_1 (io), E22 IO_L32N_A16_M1A9_1 (io), F18 IO_L1P_A25_1 (io), F19 IO_L1N_A24_VREF_1 (io), F20 IO_L29N_A22_M1A14_1 (io), F21 IO_L31P_A19_M1CKE_1 (io), F22 IO_L31N_A18_M1A12_1 (io), G19 IO_L29P_A23_M1A13_1 (io), G20 IO_L35P_A11_M1A7_1 (io), G22 IO_L35N_A10_M1A2_1 (io), H16 IO_L9P_1 (io), H17 IO_L9N_1 (io), H18 IO_L30P_A21_M1RESET_1 (io), H19 IO_L30N_A20_M1A11_1 (io), H20 IO_L33N_A14_M1A4_1 (io), H21 IO_L37P_A7_M1A0_1 (io), H22 IO_L37N_A6_M1A1_1 (io), J16 IO_L19P_1 (io), J17 IO_L19N_1 (io), J19 IO_L33P_A15_M1A10_1 (io), J20 IO_L39P_M1A3_1 (io), J22 IO_L39N_M1ODT_1 (io), K16 IO_L21N_1 (io), K17 IO_L36P_A9_M1BA0_1 (io), K18 IO_L34N_A12_M1BA2_1 (io), K19 IO_L34P_A13_M1WE_1 (io), K20 IO_L38P_A5_M1CLK_1 (io), K21 IO_L41P_GCLK9_IRDY1_M1RASN_1 (io), K22 IO_L41N_GCLK8_M1CASN_1 (io), L15 IO_L21P_1 (io), L17 IO_L36N_A8_M1BA1_1 (io), L19 IO_L38N_A4_M1CLKN_1 (io), L20 IO_L43P_GCLK5_M1DQ4_1 (io), L22 IO_L43N_GCLK4_M1DQ5_1 (io), M16 IO_L58P_1 (io), M17 IO_L61P_1 (io), M18 IO_L61N_1 (io), M19 IO_L40N_GCLK10_M1A6_1 (io), M20 IO_L40P_GCLK11_M1A5_1 (io), M21 IO_L44P_A3_M1DQ6_1 (io), M22 IO_L44N_A2_M1DQ7_1 (io), N15 IO_L58N_1 (io), N16 IO_L60P_1 (io), N19 IO_L42N_GCLK6_TRDY1_M1LDM_1 (io), N20 IO_L45P_A1_M1LDQS_1 (io), N22 IO_L45N_A0_M1LDQSN_1 (io), P16 IO_L60N_1 (io), P17 IO_L71P_1 (io), P18 IO_L71N_1 (io), P19 IO_L53P_1 (io), P20 IO_L42P_GCLK7_M1UDM_1 (io), P21 IO_L46P_FCS_B_M1DQ2_1 (io), P22 IO_L46N_FOE_B_M1DQ3_1 (io), R15 IO_L70P_1 (io), R16 IO_L70N_1 (io), R17 IO_L72P_1 (io), R19 IO_L53N_VREF_1 (io), R20 IO_L47P_FWE_B_M1DQ0_1 (io), R22 IO_L47N_LDC_M1DQ1_1 (io), T17 IO_L72N_1 (io), T18 IO_L73N_1 (io), T19 IO_L73P_1 (io), T20 IO_L59N_1 (io), T21 IO_L48P_HDC_M1DQ8_1 (io), T22 IO_L48N_M1DQ9_1 (io), U19 IO_L59P_1 (io), U20 IO_L49P_M1DQ10_1 (io), U22 IO_L49N_M1DQ11_1 (io), V19 IO_L74P_AWAKE_1 (io), V20 IO_L74N_DOUT_BUSY_1 (io), V21 IO_L50P_M1UDQS_1 (io), V22 IO_L50N_M1UDQSN_1 (io), W20 IO_L51P_M1DQ12_1 (io), W22 IO_L51N_M1DQ13_1 (io), Y21 IO_L52P_M1DQ14_1 (io), Y22 IO_L52N_M1DQ15_1 (io)
part C pins: AA3 IO_L65N_CSO_B_2 (io), AA4 IO_L63P_2 (io), AA6 IO_L49P_D3_2 (io), AA8 IO_L45P_2 (io), AA10 IO_L41P_2 (io), AA12 IO_L31P_GCLK31_D14_2 (io), AA14 IO_L6P_2 (io), AA16 IO_L19P_2 (io), AA18 IO_L14P_D11_2 (io), AA20 IO_L3P_D0_DIN_MISO_MISO1_2 (io), AA21 IO_L1N_M0_CMPMISO_2 (io), AB4 IO_L63N_2 (io), AB5 IO_L62N_D6_2 (io), AB6 IO_L49N_D4_2 (io), AB7 IO_L47N_2 (io), AB8 IO_L45N_2 (io), AB9 IO_L43N_2 (io), AB10 IO_L41N_VREF_2 (io), AB11 IO_L32N_GCLK28_2 (io), AB12 IO_L31N_GCLK30_D15_2 (io), AB13 IO_L30N_GCLK0_USERCCLK_2 (io), AB14 IO_L6N_2 (io), AB15 IO_L21N_2 (io), AB16 IO_L19N_2 (io), AB17 IO_L15N_2 (io), AB18 IO_L14N_D12_2 (io), AB19 IO_L13N_D10_2 (io), AB20 IO_L3N_MOSI_CSI_B_MISO0_2 (io), R8 IO_L59N_2 (io), R9 IO_L59P_2 (io), R11 IO_L22P_2 (io), R13 IO_L12P_D1_MISO2_2 (io), T7 IO_L64P_D8_2 (io), T8 IO_L57P_2 (io), T10 IO_L46P_2 (io), T11 IO_L22N_2 (io), T12 IO_L29P_GCLK3_2 (io), T14 IO_L12N_D2_MISO3_2 (io), T15 IO_L23P_2 (io), U6 IO_L64N_D9_2 (io), U8 IO_L57N_2 (io), U9 IO_L50P_2 (io), U10 IO_L46N_2 (io), U12 IO_L29N_GCLK2_2 (io), U13 IO_L16N_VREF_2 (io), U14 IO_L16P_2 (io), U15 IO_L23N_2 (io), U16 IO_L4P_2 (io), V7 IO_L58P_2 (io), V9 IO_L50N_2 (io), V11 IO_L42P_2 (io), V13 IO_L18P_2 (io), V15 IO_L4N_VREF_2 (io), V17 IO_L2P_CMPCLK_2 (io), W6 IO_L60P_2 (io), W8 IO_L58N_2 (io), W9 IO_L48P_D7_2 (io), W10 IO_L44P_2 (io), W11 IO_L42N_2 (io), W12 IO_L40P_2 (io), W13 IO_L18N_2 (io), W14 IO_L20P_2 (io), W15 IO_L17N_2 (io), W17 IO_L5P_2 (io), W18 IO_L2N_CMPMOSI_2 (io), Y4 IO_L65P_INIT_B_2 (io), Y5 IO_L62P_D5_2 (io), Y6 IO_L60N_2 (io), Y7 IO_L47P_2 (io), Y8 IO_L48N_RDWR_B_VREF_2 (io), Y9 IO_L43P_2 (io), Y10 IO_L44N_2 (io), Y11 IO_L32P_GCLK29_2 (io), Y12 IO_L40N_2 (io), Y13 IO_L30P_GCLK1_D13_2 (io), Y14 IO_L20N_2 (io), Y15 IO_L21P_2 (io), Y16 IO_L17P_2 (io), Y17 IO_L15P_2 (io), Y18 IO_L5N_2 (io), Y19 IO_L13P_M1_2 (io), Y20 IO_L1P_CCLK_2 (io)
part D pins: AA1 IO_L10N_3 (io), AA2 IO_L10P_3 (io), B1 IO_L83N_VREF_3 (io), C1 IO_L83P_3 (io), D1 IO_L59N_3 (io), D2 IO_L59P_3 (io), E1 IO_L54N_M3A11_3 (io), E3 IO_L54P_M3RESET_3 (io), E4 IO_L60N_3 (io), F1 IO_L53N_M3A12_3 (io), F2 IO_L53P_M3CKE_3 (io), F3 IO_L60P_3 (io), F5 IO_L82P_3 (io), G1 IO_L52N_M3A9_3 (io), G3 IO_L52P_M3A8_3 (io), G4 IO_L58N_3 (io), G6 IO_L82N_3 (io), G7 IO_L80N_3 (io), H1 IO_L50N_M3BA2_3 (io), H2 IO_L50P_M3WE_3 (io), H3 IO_L51N_M3A4_3 (io), H4 IO_L58P_3 (io), H5 IO_L55N_M3A14_3 (io), H6 IO_L80P_3 (io), H8 IO_L81N_3 (io), J1 IO_L48N_M3BA1_3 (io), J3 IO_L48P_M3BA0_3 (io), J4 IO_L51P_M3A10_3 (io), J6 IO_L55P_M3A13_3 (io), J7 IO_L81P_3 (io), K1 IO_L47N_M3A1_3 (io), K2 IO_L47P_M3A0_3 (io), K3 IO_L46N_M3CLKN_3 (io), K4 IO_L46P_M3CLK_3 (io), K5 IO_L49N_M3A2_3 (io), K6 IO_L49P_M3A7_3 (io), K7 IO_L57P_3 (io), K8 IO_L57N_VREF_3 (io), L1 IO_L41N_GCLK26_M3DQ5_3 (io), L3 IO_L41P_GCLK27_M3DQ4_3 (io), L4 IO_L44N_GCLK20_M3A6_3 (io), L6 IO_L45N_M3ODT_3 (io), M1 IO_L40N_M3DQ7_3 (io), M2 IO_L40P_M3DQ6_3 (io), M3 IO_L44P_GCLK21_M3A5_3 (io), M4 IO_L43N_GCLK22_IRDY2_M3CASN_3 (io), M5 IO_L43P_GCLK23_M3RASN_3 (io), M6 IO_L45P_M3A3_3 (io), M7 IO_L31P_3 (io), M8 IO_L31N_VREF_3 (io), N1 IO_L39N_M3LDQSN_3 (io), N3 IO_L39P_M3LDQS_3 (io), N4 IO_L42N_GCLK24_M3LDM_3 (io), N6 IO_L23P_3 (io), N7 IO_L23N_3 (io), P1 IO_L38N_M3DQ3_3 (io), P2 IO_L38P_M3DQ2_3 (io), P3 IO_L42P_GCLK25_TRDY2_M3UDM_3 (io), P4 IO_L9N_3 (io), P5 IO_L9P_3 (io), P6 IO_L25P_3 (io), P7 IO_L25N_3 (io), P8 IO_L1N_VREF_3 (io), R1 IO_L37N_M3DQ1_3 (io), R3 IO_L37P_M3DQ0_3 (io), R4 IO_L26N_3 (io), R7 IO_L1P_3 (io), T1 IO_L36N_M3DQ9_3 (io), T2 IO_L36P_M3DQ8_3 (io), T3 IO_L26P_3 (io), T4 IO_L24N_3 (io), T5 IO_L7N_3 (io), T6 IO_L7P_3 (io), U1 IO_L35N_M3DQ11_3 (io), U3 IO_L35P_M3DQ10_3 (io), U4 IO_L24P_3 (io), V1 IO_L34N_M3UDQSN_3 (io), V2 IO_L34P_M3UDQS_3 (io), V3 IO_L8N_3 (io), V5 IO_L8P_3 (io), W1 IO_L33N_M3DQ13_3 (io), W3 IO_L33P_M3DQ12_3 (io), W4 IO_L2P_3 (io), Y1 IO_L32N_M3DQ15_3 (io), Y2 IO_L32P_M3DQ14_3 (io), Y3 IO_L2N_3 (io)
part E pins: A6 MGTTXN0_101 (out), A7 MGTAVTTTX_101 (power), A8 MGTTXN1_101 (out), A10 MGTREFCLK0P_101 (in), A12 MGTREFCLK0P_123 (in), A14 MGTTXN0_123 (out), A15 MGTAVTTTX_123 (power), A16 MGTTXN1_123 (out), B6 MGTTXP0_101 (out), B8 MGTTXP1_101 (out), B9 MGTAVCCPLL0_101 (power), B10 MGTREFCLK0N_101 (in), B12 MGTREFCLK0N_123 (in), B13 MGTAVCCPLL0_123 (power), B14 MGTTXP0_123 (out), B16 MGTTXP1_123 (out), C7 MGTRXN0_101 (in), C9 MGTRXN1_101 (in), C10 MGTAVCC_101 (power), C11 MGTREFCLK1P_101 (in), C13 MGTRXN0_123 (in), C15 MGTRXN1_123 (in), D7 MGTRXP0_101 (in), D8 MGTAVTTRX_101 (power), D9 MGTRXP1_101 (in), D11 MGTREFCLK1N_101 (in), D12 MGTAVCCPLL1_101 (power), D13 MGTRXP0_123 (in), D14 MGTAVTTRX_123 (power), D15 MGTRXP1_123 (in), E8 MGTAVTTRCAL_101 (power), E9 MGTRREF_101 (in), E10 MGTAVCC_123 (power), E12 MGTREFCLK1P_123 (in), E13 MGTAVCCPLL1_123 (power), F12 MGTREFCLK1N_123 (in)
part F pins: A21 TCK (in), AA22 SUSPEND (in), AB2 PROGRAM_B_2 (in), AB21 DONE_2 (io), D20 TMS (in), E18 TDI (in), G17 TDO (out), P15 RFUSE (in), U17 VFS (in), V18 CMPCS_B_2 (in)
part G pins: AA7 VCCO_2 (power), AA11 VCCO_2 (power), AA15 VCCO_2 (power), AA19 VCCO_2 (power), AB3 VCCO_2 (power), B4 VCCO_0 (power), B19 VCCO_0 (power), C2 VCCO_3 (power), C21 VCCO_1 (power), E17 VCCO_0 (power), E19 VCCO_1 (power), F4 VCCO_3 (power), F6 VCCO_0 (power), F11 VCCAUX (power), G2 VCCO_3 (power), G10 VCCO_0 (power), G12 VCCAUX (power), G14 VCCO_0 (power), G21 VCCO_1 (power), H9 VCCAUX (power), H15 VCCAUX (power), J5 VCCO_3 (power), J8 VCCINT (power), J10 VCCINT (power), J12 VCCINT (power), J14 VCCINT (power), J18 VCCO_1 (power), K9 VCCINT (power), K11 VCCINT (power), K13 VCCINT (power), K15 VCCAUX (power), L2 VCCO_3 (power), L7 VCCO_3 (power), L8 VCCAUX (power), L10 VCCINT (power), L12 VCCINT (power), L14 VCCINT (power), L16 VCCO_1 (power), L21 VCCO_1 (power), M9 VCCINT (power), M11 VCCINT (power), M13 VCCINT (power), M15 VCCAUX (power), N5 VCCO_3 (power), N8 VCCAUX (power), N10 VCCINT (power), N12 VCCINT (power), N14 VCCINT (power), N18 VCCO_1 (power), P9 VCCINT (power), P11 VCCINT (power), P13 VCCINT (power), R2 VCCO_3 (power), R6 VCCAUX (power), R10 VCCAUX (power), R12 VCCAUX (power), R14 VCCINT (power), R21 VCCO_1 (power), T9 VCCO_2 (power), T13 VCCO_2 (power), T16 VBATT (power), U5 VCCO_3 (power), U11 VCCAUX (power), U18 VCCO_1 (power), V6 VCCAUX (power), V8 VCCO_2 (power), V12 VCCO_2 (power), V16 VCCO_2 (power), W2 VCCO_3 (power), W5 VCCO_2 (power), W21 VCCO_1 (power)
part H pins: A1 GND (power), A9 GND (power), A11 GND (power), A13 GND (power), A22 GND (power), AA5 GND (power), AA9 GND (power), AA13 GND (power), AA17 GND (power), AB1 GND (power), AB22 GND (power), B5 GND (power), B7 GND (power), B11 GND (power), B15 GND (power), B17 GND (power), C6 GND (power), C8 GND (power), C12 GND (power), C14 GND (power), C16 GND (power), D6 GND (power), D10 GND (power), D16 GND (power), E2 GND (power), E7 GND (power), E11 GND (power), E14 GND (power), E15 GND (power), E21 GND (power), F13 GND (power), G5 GND (power), G18 GND (power), H7 GND (power), J2 GND (power), J9 GND (power), J11 GND (power), J13 GND (power), J15 GND (power), J21 GND (power), K10 GND (power), K12 GND (power), K14 GND (power), L5 GND (power), L9 GND (power), L11 GND (power), L13 GND (power), L18 GND (power), M10 GND (power), M12 GND (power), M14 GND (power), N2 GND (power), N9 GND (power), N11 GND (power), N13 GND (power), N17 GND (power), N21 GND (power), P10 GND (power), P12 GND (power), P14 GND (power), R5 GND (power), R18 GND (power), U2 GND (power), U7 GND (power), U21 GND (power), V4 GND (power), V10 GND (power), V14 GND (power), W7 GND (power), W16 GND (power), W19 GND (power)
part A text: BANK 0
part B text: BANK 1
part C text: BANK 2
part D text: BANK 3

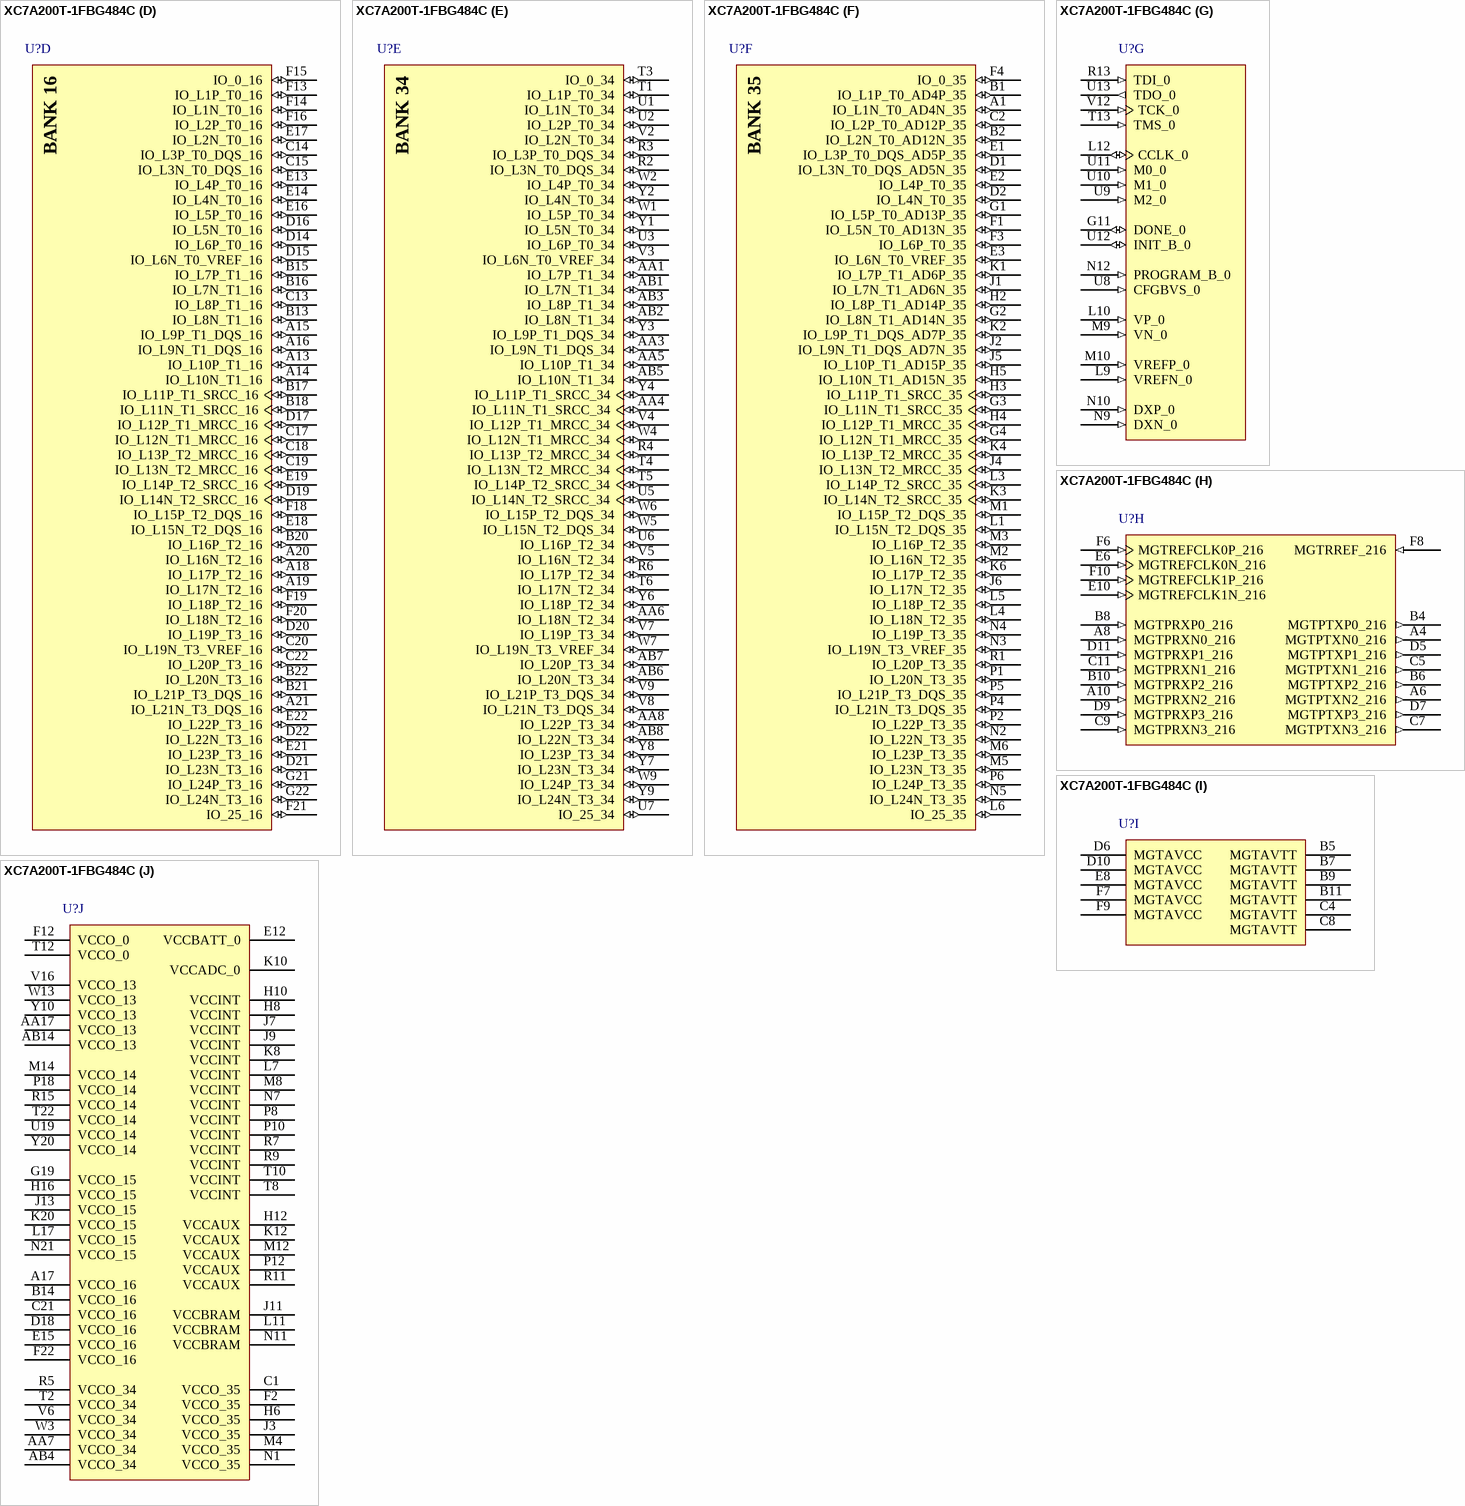
[diagram p5: symbol XC7A200T-1FBG484C]

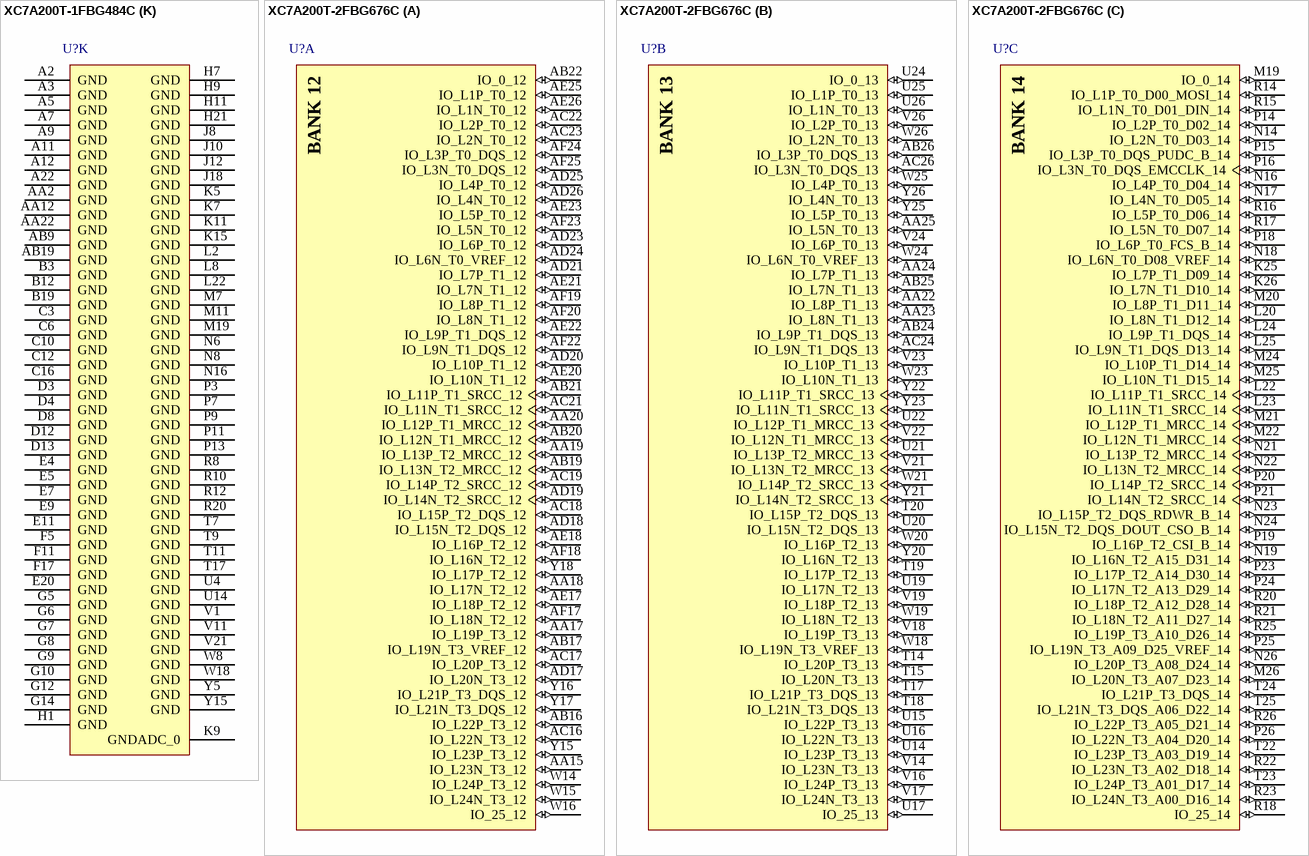
[diagram p6: symbols XC7A200T-1FBG484C to XC7A200T-2FBG676C]